# Altium schematic symbol library MY.SchLib: 652 symbols (part 6 of 7)
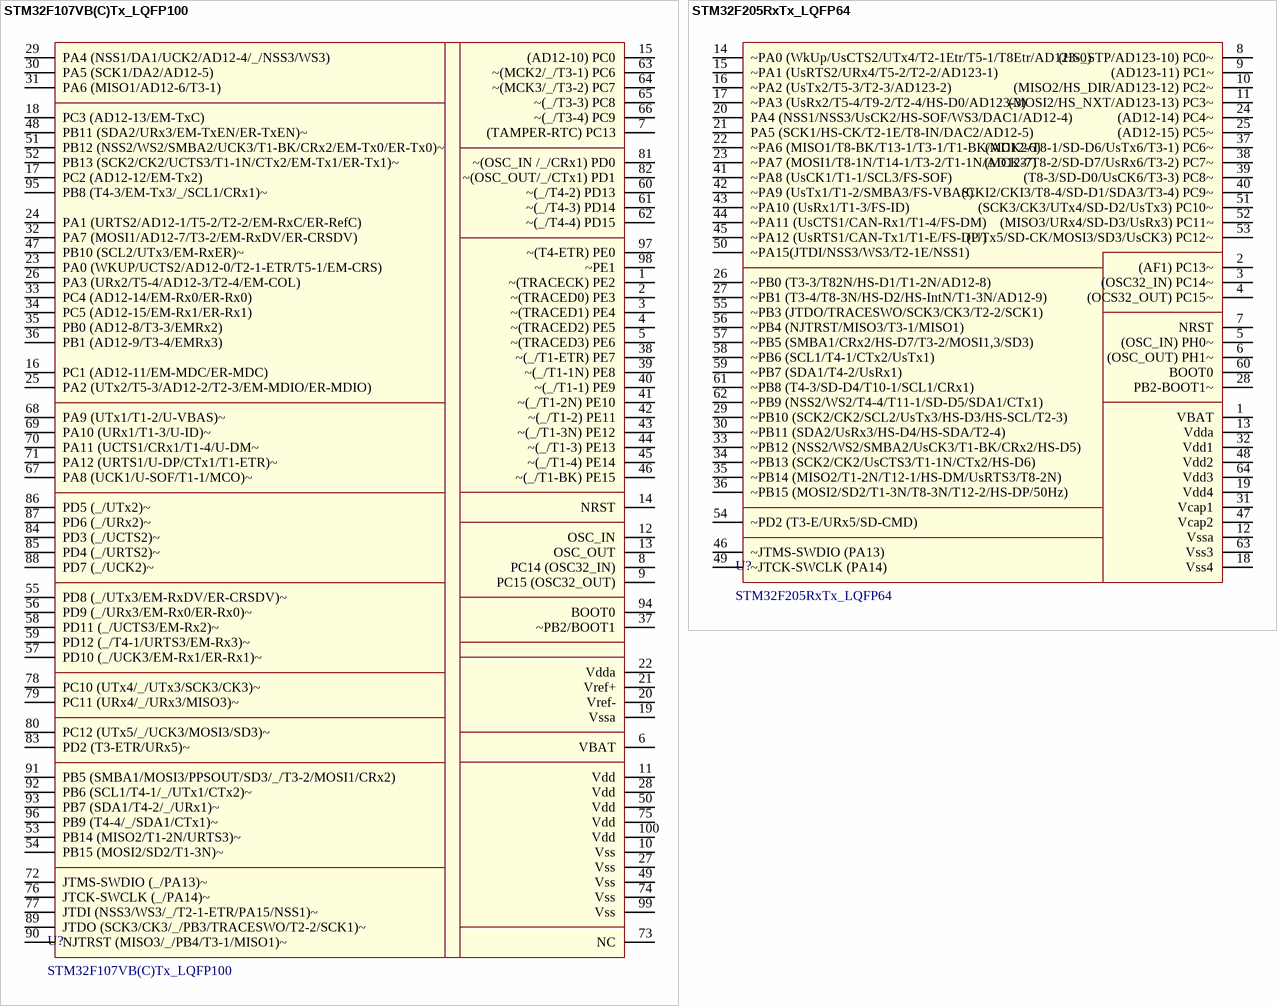
[diagram p46: symbols STM32F107VB(C)Tx_LQFP100 to STM32F205RxTx_LQFP64]

## STM32F107VB(C)Tx_LQFP100
designator U?
footprint LQFP100_UNICONT
pins: 1 ~(TRACECK) PE2, 2 ~(TRACED0) PE3, 3 ~(TRACED1) PE4, 4 ~(TRACED2) PE5, 5 ~(TRACED3) PE6, 6 VBAT, 7 (TAMPER-RTC) PC13, 8 PC14 (OSC32_IN), 9 PC15 (OSC32_OUT), 10 Vss, 11 Vdd, 12 OSC_IN, 13 OSC_OUT, 14 NRST, 15 (AD12-10) PC0, 16 PC1 (AD12-11/EM-MDC/ER-MDC), 17 PC2 (AD12-12/EM-Tx2), 18 PC3 (AD12-13/EM-TxC), 19 Vssa, 20 Vref-, 21 Vref+, 22 Vdda, 23 PA0 (WKUP/UCTS2/AD12-0/T2-1-ETR/T5-1/EM-CRS), 24 PA1 (URTS2/AD12-1/T5-2/T2-2/EM-RxC/ER-RefC), 25 PA2 (UTx2/T5-3/AD12-2/T2-3/EM-MDIO/ER-MDIO), 26 PA3 (URx2/T5-4/AD12-3/T2-4/EM-COL), 27 Vss, 28 Vdd, 29 PA4 (NSS1/DA1/UCK2/AD12-4/_/NSS3/WS3), 30 PA5 (SCK1/DA2/AD12-5), 31 PA6 (MISO1/AD12-6/T3-1), 32 PA7 (MOSI1/AD12-7/T3-2/EM-RxDV/ER-CRSDV), 33 PC4 (AD12-14/EM-Rx0/ER-Rx0), 34 PC5 (AD12-15/EM-Rx1/ER-Rx1), 35 PB0 (AD12-8/T3-3/EMRx2), 36 PB1 (AD12-9/T3-4/EMRx3), 37 ~PB2/BOOT1, 38 ~(_/T1-ETR) PE7, 39 ~(_/T1-1N) PE8, 40 ~(_/T1-1) PE9, 41 ~(_/T1-2N) PE10, 42 ~(_/T1-2) PE11, 43 ~(_/T1-3N) PE12, 44 ~(_/T1-3) PE13, 45 ~(_/T1-4) PE14, 46 ~(_/T1-BK) PE15, 47 PB10 (SCL2/UTx3/EM-RxER)~, 48 PB11 (SDA2/URx3/EM-TxEN/ER-TxEN)~, 49 Vss, 50 Vdd, 51 PB12 (NSS2/WS2/SMBA2/UCK3/T1-BK/CRx2/EM-Tx0/ER-Tx0)~, 52 PB13 (SCK2/CK2/UCTS3/T1-1N/CTx2/EM-Tx1/ER-Tx1)~, 53 PB14 (MISO2/T1-2N/URTS3)~, 54 PB15 (MOSI2/SD2/T1-3N)~, 55 PD8 (_/UTx3/EM-RxDV/ER-CRSDV)~, 56 PD9 (_/URx3/EM-Rx0/ER-Rx0)~, 57 PD10 (_/UCK3/EM-Rx1/ER-Rx1)~, 58 PD11 (_/UCTS3/EM-Rx2)~, 59 PD12 (_/T4-1/URTS3/EM-Rx3)~, 60 ~(_/T4-2) PD13, 61 ~(_/T4-3) PD14, 62 ~(_/T4-4) PD15, 63 ~(MCK2/_/T3-1) PC6, 64 ~(MCK3/_/T3-2) PC7, 65 ~(_/T3-3) PC8, 66 ~(_/T3-4) PC9, 67 PA8 (UCK1/U-SOF/T1-1/MCO)~, 68 PA9 (UTx1/T1-2/U-VBAS)~, 69 PA10 (URx1/T1-3/U-ID)~, 70 PA11 (UCTS1/CRx1/T1-4/U-DM~, 71 PA12 (URTS1/U-DP/CTx1/T1-ETR)~, 72 JTMS-SWDIO (_/PA13)~, 73 NC, 74 Vss, 75 Vdd, 76 JTCK-SWCLK (_/PA14)~, 77 JTDI (NSS3/WS3/_/T2-1-ETR/PA15/NSS1)~, 78 PC10 (UTx4/_/UTx3/SCK3/CK3)~, 79 PC11 (URx4/_/URx3/MISO3)~, 80 PC12 (UTx5/_/UCK3/MOSI3/SD3)~, 81 ~(OSC_IN /_/CRx1) PD0, 82 ~(OSC_OUT/_/CTx1) PD1, 83 PD2 (T3-ETR/URx5)~, 84 PD3 (_/UCTS2)~, 85 PD4 (_/URTS2)~, 86 PD5 (_/UTx2)~, 87 PD6 (_/URx2)~, 88 PD7 (_/UCK2)~, 89 JTDO (SCK3/CK3/_/PB3/TRACESWO/T2-2/SCK1)~, 90 NJTRST (MISO3/_/PB4/T3-1/MISO1)~, 91 PB5 (SMBA1/MOSI3/PPSOUT/SD3/_/T3-2/MOSI1/CRx2), 92 PB6 (SCL1/T4-1/_/UTx1/CTx2)~, 93 PB7 (SDA1/T4-2/_/URx1)~, 94 BOOT0, 95 PB8 (T4-3/EM-Tx3/_/SCL1/CRx1)~, 96 PB9 (T4-4/_/SDA1/CTx1)~, 97 ~(T4-ETR) PE0, 98 ~PE1, 99 Vss, 100 Vdd

## STM32F205RxTx_LQFP64
designator U?
footprint LQFP64_UNICONT
pins: 1 VBAT, 2 (AF1) PC13~, 3 (OSC32_IN) PC14~, 4 (OCS32_OUT) PC15~, 5 (OSC_IN) PH0~, 6 (OSC_OUT) PH1~, 7 NRST, 8 (HS_STP/AD123-10) PC0~, 9 (AD123-11) PC1~, 10 (MISO2/HS_DIR/AD123-12) PC2~, 11 (MOSI2/HS_NXT/AD123-13) PC3~, 12 Vssa, 13 Vdda, 14 ~PA0 (WkUp/UsCTS2/UTx4/T2-1Etr/T5-1/T8Etr/AD123-0), 15 ~PA1 (UsRTS2/URx4/T5-2/T2-2/AD123-1), 16 ~PA2 (UsTx2/T5-3/T2-3/AD123-2), 17 ~PA3 (UsRx2/T5-4/T9-2/T2-4/HS-D0/AD123-3), 18 Vss4, 19 Vdd4, 20 PA4 (NSS1/NSS3/UsCK2/HS-SOF/WS3/DAC1/AD12-4), 21 PA5 (SCK1/HS-CK/T2-1E/T8-IN/DAC2/AD12-5), 22 ~PA6 (MISO1/T8-BK/T13-1/T3-1/T1-BK/AD12-6), 23 ~PA7 (MOSI1/T8-1N/T14-1/T3-2/T1-1N/AD12-7), 24 (AD12-14) PC4~, 25 (AD12-15) PC5~, 26 ~PB0 (T3-3/T82N/HS-D1/T1-2N/AD12-8), 27 ~PB1 (T3-4/T8-3N/HS-D2/HS-IntN/T1-3N/AD12-9), 28 PB2-BOOT1~, 29 ~PB10 (SCK2/CK2/SCL2/UsTx3/HS-D3/HS-SCL/T2-3), 30 ~PB11 (SDA2/UsRx3/HS-D4/HS-SDA/T2-4), 31 Vcap1, 32 Vdd1, 33 ~PB12 (NSS2/WS2/SMBA2/UsCK3/T1-BK/CRx2/HS-D5), 34 ~PB13 (SCK2/CK2/UsCTS3/T1-1N/CTx2/HS-D6), 35 ~PB14 (MISO2/T1-2N/T12-1/HS-DM/UsRTS3/T8-2N), 36 ~PB15 (MOSI2/SD2/T1-3N/T8-3N/T12-2/HS-DP/50Hz), 37 (MCK2/T8-1/SD-D6/UsTx6/T3-1) PC6~, 38 (MCK3/T8-2/SD-D7/UsRx6/T3-2) PC7~, 39 (T8-3/SD-D0/UsCK6/T3-3) PC8~, 40 (CKI2/CKI3/T8-4/SD-D1/SDA3/T3-4) PC9~, 41 ~PA8 (UsCK1/T1-1/SCL3/FS-SOF), 42 ~PA9 (UsTx1/T1-2/SMBA3/FS-VBAS), 43 ~PA10 (UsRx1/T1-3/FS-ID), 44 ~PA11 (UsCTS1/CAN-Rx1/T1-4/FS-DM), 45 ~PA12 (UsRTS1/CAN-Tx1/T1-E/FS-DP/), 46 ~JTMS-SWDIO (PA13), 47 Vcap2, 48 Vdd2, 49 ~JTCK-SWCLK (PA14), 50 ~PA15(JTDI/NSS3/WS3/T2-1E/NSS1), 51 (SCK3/CK3/UTx4/SD-D2/UsTx3) PC10~, 52 (MISO3/URx4/SD-D3/UsRx3) PC11~, 53 (UTx5/SD-CK/MOSI3/SD3/UsCK3) PC12~, 54 ~PD2 (T3-E/URx5/SD-CMD), 55 ~PB3 (JTDO/TRACESWO/SCK3/CK3/T2-2/SCK1), 56 ~PB4 (NJTRST/MISO3/T3-1/MISO1), 57 ~PB5 (SMBA1/CRx2/HS-D7/T3-2/MOSI1,3/SD3), 58 ~PB6 (SCL1/T4-1/CTx2/UsTx1), 59 ~PB7 (SDA1/T4-2/UsRx1), 60 BOOT0, 61 ~PB8 (T4-3/SD-D4/T10-1/SCL1/CRx1), 62 ~PB9 (NSS2/WS2/T4-4/T11-1/SD-D5/SDA1/CTx1), 63 Vss3, 64 Vdd3

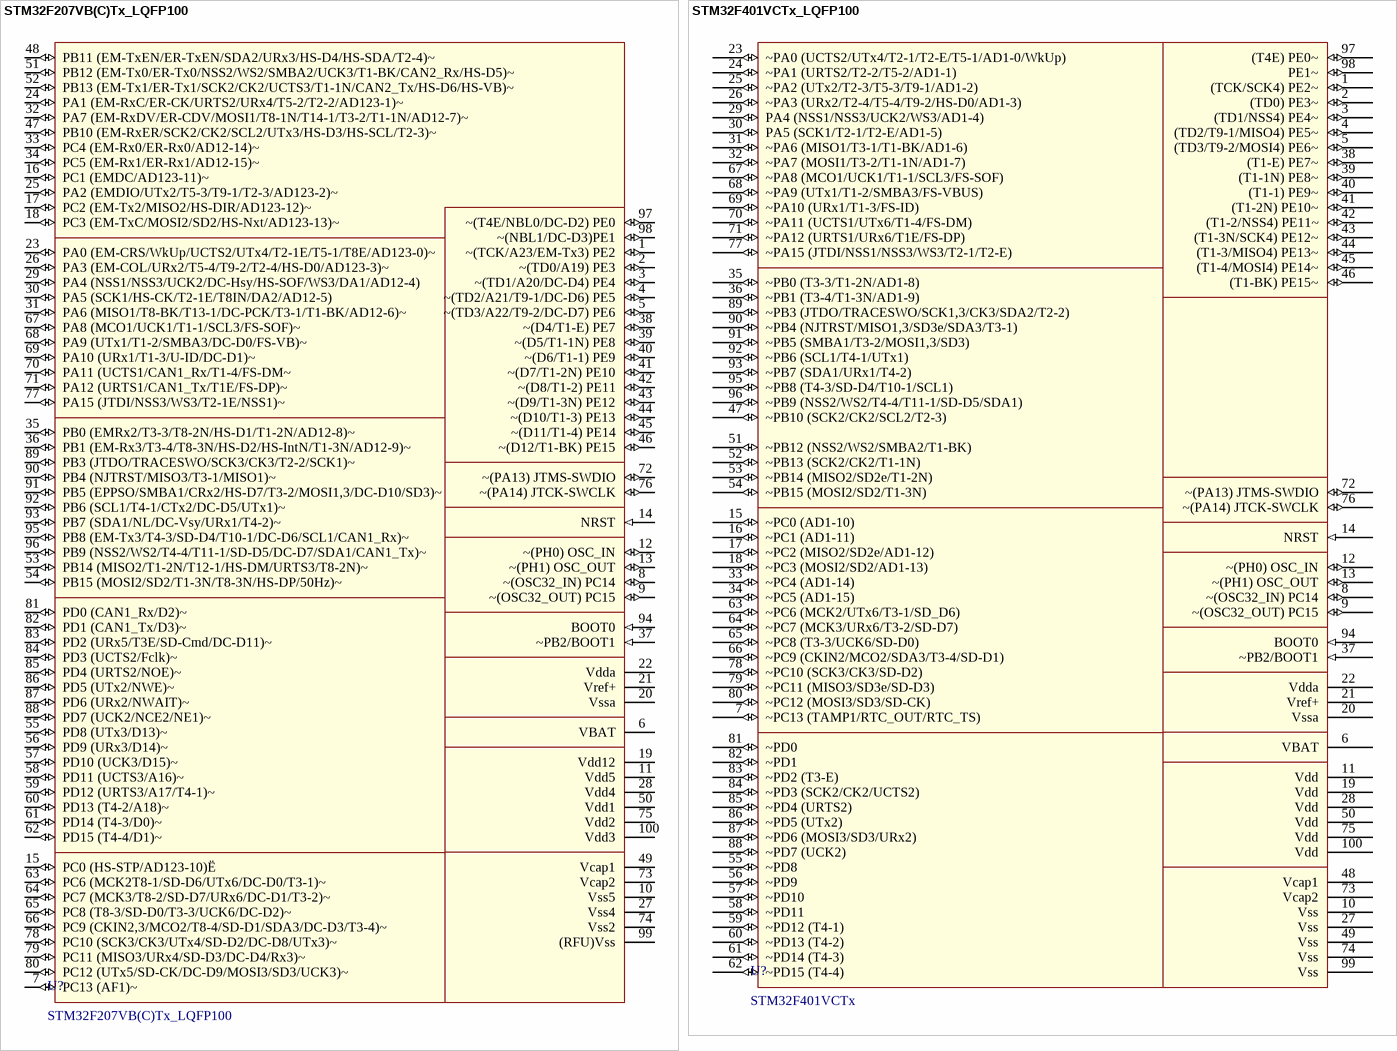
[diagram p31: symbols STM32F207VB(C)Tx_LQFP100 to STM32F401VCTx_LQFP100]

## STM32F207VB(C)Tx_LQFP100
designator U?
footprint LQFP100_UNICONT
pins: 1 ~(TCK/A23/EM-Tx3) PE2 (io), 2 ~(TD0/A19) PE3 (io), 3 ~(TD1/A20/DC-D4) PE4 (io), 4 ~(TD2/A21/T9-1/DC-D6) PE5 (io), 5 ~(TD3/A22/T9-2/DC-D7) PE6 (io), 6 VBAT (power), 7 PC13 (AF1)~ (io), 8 ~(OSC32_IN) PC14 (io), 9 ~(OSC32_OUT) PC15 (io), 10 Vss5 (power), 11 Vdd5 (power), 12 ~(PH0) OSC_IN (io), 13 ~(PH1) OSC_OUT (io), 14 NRST (in), 15 PC0 (HS-STP/AD123-10)Ё (io), 16 PC1 (EMDC/AD123-11)~ (io), 17 PC2 (EM-Tx2/MISO2/HS-DIR/AD123-12)~ (io), 18 PC3 (EM-TxC/MOSI2/SD2/HS-Nxt/AD123-13)~ (io), 19 Vdd12 (power), 20 Vssa (power), 21 Vref+ (power), 22 Vdda (power), 23 PA0 (EM-CRS/WkUp/UCTS2/UTx4/T2-1E/T5-1/T8E/AD123-0)~ (io), 24 PA1 (EM-RxC/ER-CK/URTS2/URx4/T5-2/T2-2/AD123-1)~ (io), 25 PA2 (EMDIO/UTx2/T5-3/T9-1/T2-3/AD123-2)~ (io), 26 PA3 (EM-COL/URx2/T5-4/T9-2/T2-4/HS-D0/AD123-3)~ (io), 27 Vss4 (power), 28 Vdd4 (power), 29 PA4 (NSS1/NSS3/UCK2/DC-Hsy/HS-SOF/WS3/DA1/AD12-4) (io), 30 PA5 (SCK1/HS-CK/T2-1E/T8IN/DA2/AD12-5) (io), 31 PA6 (MISO1/T8-BK/T13-1/DC-PCK/T3-1/T1-BK/AD12-6)~ (io), 32 PA7 (EM-RxDV/ER-CDV/MOSI1/T8-1N/T14-1/T3-2/T1-1N/AD12-7)~ (io), 33 PC4 (EM-Rx0/ER-Rx0/AD12-14)~ (io), 34 PC5 (EM-Rx1/ER-Rx1/AD12-15)~ (io), 35 PB0 (EMRx2/T3-3/T8-2N/HS-D1/T1-2N/AD12-8)~ (io), 36 PB1 (EM-Rx3/T3-4/T8-3N/HS-D2/HS-IntN/T1-3N/AD12-9)~ (io), 37 ~PB2/BOOT1 (in), 38 ~(D4/T1-E) PE7 (io), 39 ~(D5/T1-1N) PE8 (io), 40 ~(D6/T1-1) PE9 (io), 41 ~(D7/T1-2N) PE10 (io), 42 ~(D8/T1-2) PE11 (io), 43 ~(D9/T1-3N) PE12 (io), 44 ~(D10/T1-3) PE13 (io), 45 ~(D11/T1-4) PE14 (io), 46 ~(D12/T1-BK) PE15 (io), 47 PB10 (EM-RxER/SCK2/CK2/SCL2/UTx3/HS-D3/HS-SCL/T2-3)~ (io), 48 PB11 (EM-TxEN/ER-TxEN/SDA2/URx3/HS-D4/HS-SDA/T2-4)~ (io), 49 Vcap1 (power), 50 Vdd1 (power), 51 PB12 (EM-Tx0/ER-Tx0/NSS2/WS2/SMBA2/UCK3/T1-BK/CAN2_Rx/HS-D5)~ (io) "ffgfgg", 52 PB13 (EM-Tx1/ER-Tx1/SCK2/CK2/UCTS3/T1-1N/CAN2_Tx/HS-D6/HS-VB)~ (io), 53 PB14 (MISO2/T1-2N/T12-1/HS-DM/URTS3/T8-2N)~ (io), 54 PB15 (MOSI2/SD2/T1-3N/T8-3N/HS-DP/50Hz)~ (io), 55 PD8 (UTx3/D13)~ (io), 56 PD9 (URx3/D14)~ (io), 57 PD10 (UCK3/D15)~ (io), 58 PD11 (UCTS3/A16)~ (io), 59 PD12 (URTS3/A17/T4-1)~ (io), 60 PD13 (T4-2/A18)~ (io), 61 PD14 (T4-3/D0)~ (io), 62 PD15 (T4-4/D1)~ (io), 63 PC6 (MCK2T8-1/SD-D6/UTx6/DC-D0/T3-1)~ (io), 64 PC7 (MCK3/T8-2/SD-D7/URx6/DC-D1/T3-2)~ (io), 65 PC8 (T8-3/SD-D0/T3-3/UCK6/DC-D2)~ (io), 66 PC9 (CKIN2,3/MCO2/T8-4/SD-D1/SDA3/DC-D3/T3-4)~ (io), 67 PA8 (MCO1/UCK1/T1-1/SCL3/FS-SOF)~ (io), 68 PA9 (UTx1/T1-2/SMBA3/DC-D0/FS-VB)~ (io), 69 PA10 (URx1/T1-3/U-ID/DC-D1)~ (io), 70 PA11 (UCTS1/CAN1_Rx/T1-4/FS-DM~ (io), 71 PA12 (URTS1/CAN1_Tx/T1E/FS-DP)~ (io), 72 ~(PA13) JTMS-SWDIO (io), 73 Vcap2 (power), 74 Vss2 (power), 75 Vdd2 (power), 76 ~(PA14) JTCK-SWCLK (io), 77 PA15 (JTDI/NSS3/WS3/T2-1E/NSS1)~ (io), 78 PC10 (SCK3/CK3/UTx4/SD-D2/DC-D8/UTx3)~ (io), 79 PC11 (MISO3/URx4/SD-D3/DC-D4/Rx3)~ (io), 80 PC12 (UTx5/SD-CK/DC-D9/MOSI3/SD3/UCK3)~ (io), 81 PD0 (CAN1_Rx/D2)~ (io), 82 PD1 (CAN1_Tx/D3)~ (io), 83 PD2 (URx5/T3E/SD-Cmd/DC-D11)~ (io), 84 PD3 (UCTS2/Fclk)~ (io), 85 PD4 (URTS2/NOE)~ (io), 86 PD5 (UTx2/NWE)~ (io), 87 PD6 (URx2/NWAIT)~ (io), 88 PD7 (UCK2/NCE2/NE1)~ (io), 89 PB3 (JTDO/TRACESWO/SCK3/CK3/T2-2/SCK1)~ (io), 90 PB4 (NJTRST/MISO3/T3-1/MISO1)~ (io), 91 PB5 (EPPSO/SMBA1/CRx2/HS-D7/T3-2/MOSI1,3/DC-D10/SD3)~ (io), 92 PB6 (SCL1/T4-1/CTx2/DC-D5/UTx1)~ (io), 93 PB7 (SDA1/NL/DC-Vsy/URx1/T4-2)~ (io), 94 BOOT0 (in), 95 PB8 (EM-Tx3/T4-3/SD-D4/T10-1/DC-D6/SCL1/CAN1_Rx)~ (io), 96 PB9 (NSS2/WS2/T4-4/T11-1/SD-D5/DC-D7/SDA1/CAN1_Tx)~ (io), 97 ~(T4E/NBL0/DC-D2) PE0 (io), 98 ~(NBL1/DC-D3)PE1 (io), 99 (RFU)Vss (power), 100 Vdd3 (power)

## STM32F401VCTx_LQFP100
designator U?, comment STM32F401VCTx
footprint LQFP100_UNICONT
pins: 1 (TCK/SCK4) PE2~ (io), 2 (TD0) PE3~ (io), 3 (TD1/NSS4) PE4~ (io), 4 (TD2/T9-1/MISO4) PE5~ (io), 5 (TD3/T9-2/MOSI4) PE6~ (io), 6 VBAT (power), 7 ~PC13 (TAMP1/RTC_OUT/RTC_TS) (io), 8 ~(OSC32_IN) PC14 (io), 9 ~(OSC32_OUT) PC15 (io), 10 Vss (power), 11 Vdd (power), 12 ~(PH0) OSC_IN (io), 13 ~(PH1) OSC_OUT (io), 14 NRST (in), 15 ~PC0 (AD1-10) (io), 16 ~PC1 (AD1-11) (io), 17 ~PC2 (MISO2/SD2e/AD1-12) (io), 18 ~PC3 (MOSI2/SD2/AD1-13) (io), 19 Vdd (power), 20 Vssa (power), 21 Vref+ (power), 22 Vdda (power), 23 ~PA0 (UCTS2/UTx4/T2-1/T2-E/T5-1/AD1-0/WkUp) (io), 24 ~PA1 (URTS2/T2-2/T5-2/AD1-1) (io), 25 ~PA2 (UTx2/T2-3/T5-3/T9-1/AD1-2) (io), 26 ~PA3 (URx2/T2-4/T5-4/T9-2/HS-D0/AD1-3) (io), 27 Vss (power), 28 Vdd (power), 29 PA4 (NSS1/NSS3/UCK2/WS3/AD1-4) (io), 30 PA5 (SCK1/T2-1/T2-E/AD1-5) (io), 31 ~PA6 (MISO1/T3-1/T1-BK/AD1-6) (io), 32 ~PA7 (MOSI1/T3-2/T1-1N/AD1-7) (io), 33 ~PC4 (AD1-14) (io), 34 ~PC5 (AD1-15) (io), 35 ~PB0 (T3-3/T1-2N/AD1-8) (io), 36 ~PB1 (T3-4/T1-3N/AD1-9) (io), 37 ~PB2/BOOT1 (in), 38 (T1-E) PE7~ (io), 39 (T1-1N) PE8~ (io), 40 (T1-1) PE9~ (io), 41 (T1-2N) PE10~ (io), 42 (T1-2/NSS4) PE11~ (io), 43 (T1-3N/SCK4) PE12~ (io), 44 (T1-3/MISO4) PE13~ (io), 45 (T1-4/MOSI4) PE14~ (io), 46 (T1-BK) PE15~ (io), 47 ~PB10 (SCK2/CK2/SCL2/T2-3) (io), 48 Vcap1 (power), 49 Vss (power), 50 Vdd (power), 51 ~PB12 (NSS2/WS2/SMBA2/T1-BK) (io) "ffgfgg", 52 ~PB13 (SCK2/CK2/T1-1N) (io), 53 ~PB14 (MISO2/SD2e/T1-2N) (io), 54 ~PB15 (MOSI2/SD2/T1-3N) (io), 55 ~PD8 (io), 56 ~PD9 (io), 57 ~PD10 (io), 58 ~PD11 (io), 59 ~PD12 (T4-1) (io), 60 ~PD13 (T4-2) (io), 61 ~PD14 (T4-3) (io), 62 ~PD15 (T4-4) (io), 63 ~PC6 (MCK2/UTx6/T3-1/SD_D6) (io), 64 ~PC7 (MCK3/URx6/T3-2/SD-D7) (io), 65 ~PC8 (T3-3/UCK6/SD-D0) (io), 66 ~PC9 (CKIN2/MCO2/SDA3/T3-4/SD-D1) (io), 67 ~PA8 (MCO1/UCK1/T1-1/SCL3/FS-SOF) (io), 68 ~PA9 (UTx1/T1-2/SMBA3/FS-VBUS) (io), 69 ~PA10 (URx1/T1-3/FS-ID) (io), 70 ~PA11 (UCTS1/UTx6/T1-4/FS-DM) (io), 71 ~PA12 (URTS1/URx6/T1E/FS-DP) (io), 72 ~(PA13) JTMS-SWDIO (io), 73 Vcap2 (power), 74 Vss (power), 75 Vdd (power), 76 ~(PA14) JTCK-SWCLK (io), 77 ~PA15 (JTDI/NSS1/NSS3/WS3/T2-1/T2-E) (io), 78 ~PC10 (SCK3/CK3/SD-D2) (io), 79 ~PC11 (MISO3/SD3e/SD-D3) (io), 80 ~PC12 (MOSI3/SD3/SD-CK) (io), 81 ~PD0 (io), 82 ~PD1 (io), 83 ~PD2 (T3-E) (io), 84 ~PD3 (SCK2/CK2/UCTS2) (io), 85 ~PD4 (URTS2) (io), 86 ~PD5 (UTx2) (io), 87 ~PD6 (MOSI3/SD3/URx2) (io), 88 ~PD7 (UCK2) (io), 89 ~PB3 (JTDO/TRACESWO/SCK1,3/CK3/SDA2/T2-2) (io), 90 ~PB4 (NJTRST/MISO1,3/SD3e/SDA3/T3-1) (io), 91 ~PB5 (SMBA1/T3-2/MOSI1,3/SD3) (io), 92 ~PB6 (SCL1/T4-1/UTx1) (io), 93 ~PB7 (SDA1/URx1/T4-2) (io), 94 BOOT0 (in), 95 ~PB8 (T4-3/SD-D4/T10-1/SCL1) (io), 96 ~PB9 (NSS2/WS2/T4-4/T11-1/SD-D5/SDA1) (io), 97 (T4E) PE0~ (io), 98 PE1~ (io), 99 Vss (power), 100 Vdd (power)

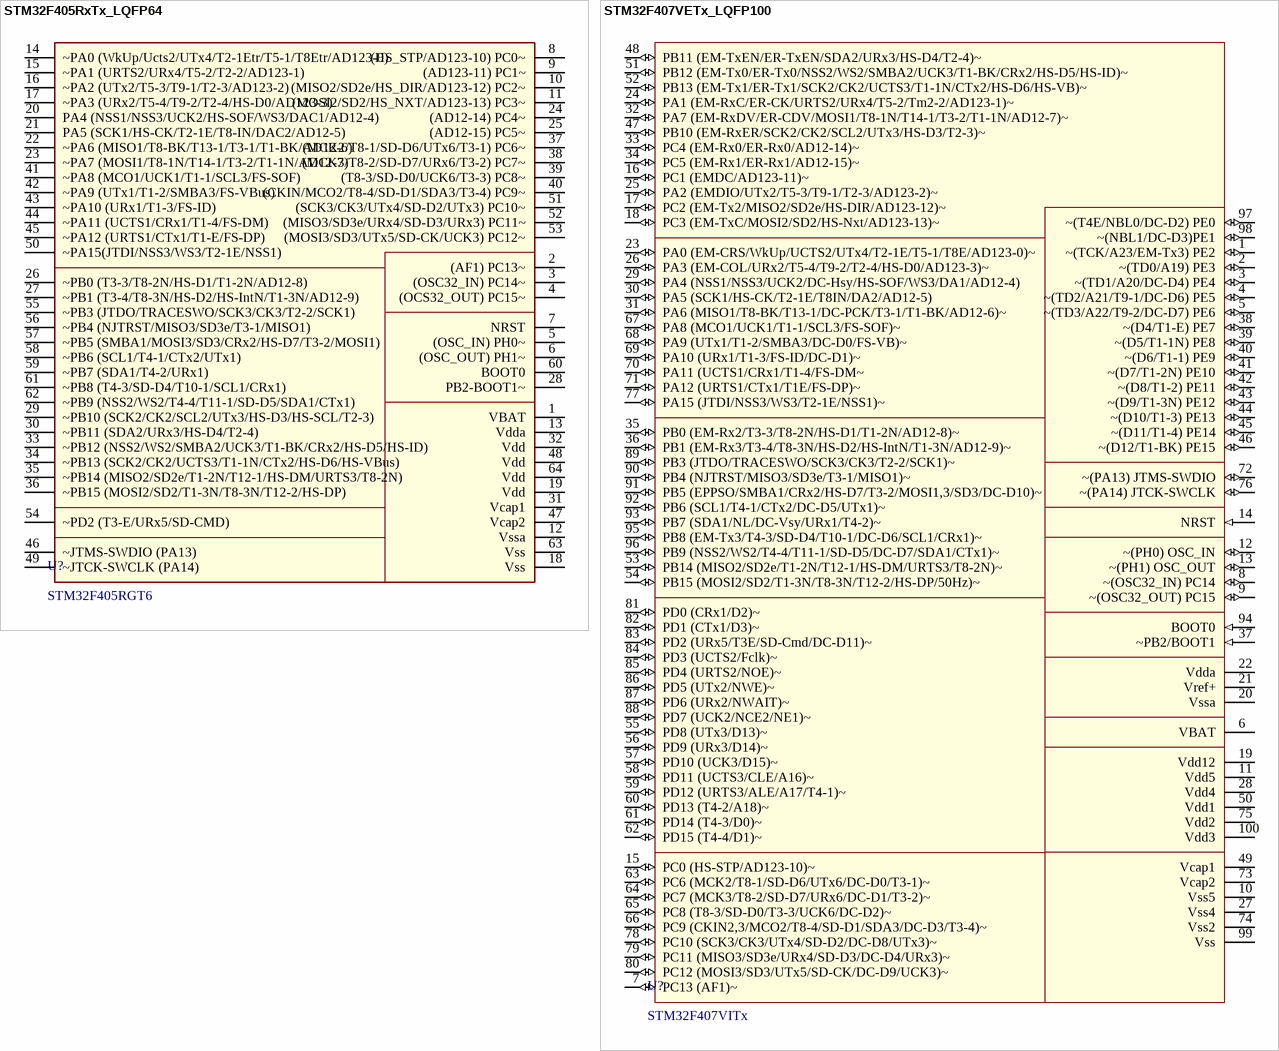
[diagram p32: symbols STM32F405RxTx_LQFP64 to STM32F407VETx_LQFP100]

## STM32F405RxTx_LQFP64
designator U?, comment STM32F405RGT6
HelpURL: L:\Dev\Техническая документация\Микроконтроллеры\ST\4xx\40x\STM32F405(7)xx_datasheet.pdf; ComponentLink1Description: Datasheet; ComponentLink1URL: L:\Dev\Техническая документация\Микроконтроллеры\ST\4xx\40x\STM32F405(7)xx_datasheet.pdf; ComponentLink2Description: Reference Manual; ComponentLink2URL: L:\Dev\Техническая документация\Микроконтроллеры\ST\4xx\F4(05,07,15,17,27,37,29,39) Reference manual rev.12 DM00031020 RM0090.pdf
footprint LQFP64_UNICONT
pins: 1 VBAT, 2 (AF1) PC13~, 3 (OSC32_IN) PC14~, 4 (OCS32_OUT) PC15~, 5 (OSC_IN) PH0~, 6 (OSC_OUT) PH1~, 7 NRST, 8 (HS_STP/AD123-10) PC0~, 9 (AD123-11) PC1~, 10 (MISO2/SD2e/HS_DIR/AD123-12) PC2~, 11 (MOSI2/SD2/HS_NXT/AD123-13) PC3~, 12 Vssa, 13 Vdda, 14 ~PA0 (WkUp/Ucts2/UTx4/T2-1Etr/T5-1/T8Etr/AD123-0), 15 ~PA1 (URTS2/URx4/T5-2/T2-2/AD123-1), 16 ~PA2 (UTx2/T5-3/T9-1/T2-3/AD123-2), 17 ~PA3 (URx2/T5-4/T9-2/T2-4/HS-D0/AD123-3), 18 Vss, 19 Vdd, 20 PA4 (NSS1/NSS3/UCK2/HS-SOF/WS3/DAC1/AD12-4), 21 PA5 (SCK1/HS-CK/T2-1E/T8-IN/DAC2/AD12-5), 22 ~PA6 (MISO1/T8-BK/T13-1/T3-1/T1-BK/AD12-6), 23 ~PA7 (MOSI1/T8-1N/T14-1/T3-2/T1-1N/AD12-7), 24 (AD12-14) PC4~, 25 (AD12-15) PC5~, 26 ~PB0 (T3-3/T8-2N/HS-D1/T1-2N/AD12-8), 27 ~PB1 (T3-4/T8-3N/HS-D2/HS-IntN/T1-3N/AD12-9), 28 PB2-BOOT1~, 29 ~PB10 (SCK2/CK2/SCL2/UTx3/HS-D3/HS-SCL/T2-3), 30 ~PB11 (SDA2/URx3/HS-D4/T2-4), 31 Vcap1, 32 Vdd, 33 ~PB12 (NSS2/WS2/SMBA2/UCK3/T1-BK/CRx2/HS-D5/HS-ID), 34 ~PB13 (SCK2/CK2/UCTS3/T1-1N/CTx2/HS-D6/HS-VBus), 35 ~PB14 (MISO2/SD2e/T1-2N/T12-1/HS-DM/URTS3/T8-2N), 36 ~PB15 (MOSI2/SD2/T1-3N/T8-3N/T12-2/HS-DP), 37 (MCK2/T8-1/SD-D6/UTx6/T3-1) PC6~, 38 (MCK3/T8-2/SD-D7/URx6/T3-2) PC7~, 39 (T8-3/SD-D0/UCK6/T3-3) PC8~, 40 (CKIN/MCO2/T8-4/SD-D1/SDA3/T3-4) PC9~, 41 ~PA8 (MCO1/UCK1/T1-1/SCL3/FS-SOF), 42 ~PA9 (UTx1/T1-2/SMBA3/FS-VBus), 43 ~PA10 (URx1/T1-3/FS-ID), 44 ~PA11 (UCTS1/CRx1/T1-4/FS-DM), 45 ~PA12 (URTS1/CTx1/T1-E/FS-DP), 46 ~JTMS-SWDIO (PA13), 47 Vcap2, 48 Vdd, 49 ~JTCK-SWCLK (PA14), 50 ~PA15(JTDI/NSS3/WS3/T2-1E/NSS1), 51 (SCK3/CK3/UTx4/SD-D2/UTx3) PC10~, 52 (MISO3/SD3e/URx4/SD-D3/URx3) PC11~, 53 (MOSI3/SD3/UTx5/SD-CK/UCK3) PC12~, 54 ~PD2 (T3-E/URx5/SD-CMD), 55 ~PB3 (JTDO/TRACESWO/SCK3/CK3/T2-2/SCK1), 56 ~PB4 (NJTRST/MISO3/SD3e/T3-1/MISO1), 57 ~PB5 (SMBA1/MOSI3/SD3/CRx2/HS-D7/T3-2/MOSI1), 58 ~PB6 (SCL1/T4-1/CTx2/UTx1), 59 ~PB7 (SDA1/T4-2/URx1), 60 BOOT0, 61 ~PB8 (T4-3/SD-D4/T10-1/SCL1/CRx1), 62 ~PB9 (NSS2/WS2/T4-4/T11-1/SD-D5/SDA1/CTx1), 63 Vss, 64 Vdd

## STM32F407VETx_LQFP100
designator U?, comment STM32F407VITx
footprint LQFP100_UNICONT
pins: 1 ~(TCK/A23/EM-Tx3) PE2 (io), 2 ~(TD0/A19) PE3 (io), 3 ~(TD1/A20/DC-D4) PE4 (io), 4 ~(TD2/A21/T9-1/DC-D6) PE5 (io), 5 ~(TD3/A22/T9-2/DC-D7) PE6 (io), 6 VBAT (power), 7 PC13 (AF1)~ (io), 8 ~(OSC32_IN) PC14 (io), 9 ~(OSC32_OUT) PC15 (io), 10 Vss5 (power), 11 Vdd5 (power), 12 ~(PH0) OSC_IN (io), 13 ~(PH1) OSC_OUT (io), 14 NRST (in), 15 PC0 (HS-STP/AD123-10)~ (io), 16 PC1 (EMDC/AD123-11)~ (io), 17 PC2 (EM-Tx2/MISO2/SD2e/HS-DIR/AD123-12)~ (io), 18 PC3 (EM-TxC/MOSI2/SD2/HS-Nxt/AD123-13)~ (io), 19 Vdd12 (power), 20 Vssa (power), 21 Vref+ (power), 22 Vdda (power), 23 PA0 (EM-CRS/WkUp/UCTS2/UTx4/T2-1E/T5-1/T8E/AD123-0)~ (io), 24 PA1 (EM-RxC/ER-CK/URTS2/URx4/T5-2/Tm2-2/AD123-1)~ (io), 25 PA2 (EMDIO/UTx2/T5-3/T9-1/T2-3/AD123-2)~ (io), 26 PA3 (EM-COL/URx2/T5-4/T9-2/T2-4/HS-D0/AD123-3)~ (io), 27 Vss4 (power), 28 Vdd4 (power), 29 PA4 (NSS1/NSS3/UCK2/DC-Hsy/HS-SOF/WS3/DA1/AD12-4) (io), 30 PA5 (SCK1/HS-CK/T2-1E/T8IN/DA2/AD12-5) (io), 31 PA6 (MISO1/T8-BK/T13-1/DC-PCK/T3-1/T1-BK/AD12-6)~ (io), 32 PA7 (EM-RxDV/ER-CDV/MOSI1/T8-1N/T14-1/T3-2/T1-1N/AD12-7)~ (io), 33 PC4 (EM-Rx0/ER-Rx0/AD12-14)~ (io), 34 PC5 (EM-Rx1/ER-Rx1/AD12-15)~ (io), 35 PB0 (EM-Rx2/T3-3/T8-2N/HS-D1/T1-2N/AD12-8)~ (io), 36 PB1 (EM-Rx3/T3-4/T8-3N/HS-D2/HS-IntN/T1-3N/AD12-9)~ (io), 37 ~PB2/BOOT1 (in), 38 ~(D4/T1-E) PE7 (io), 39 ~(D5/T1-1N) PE8 (io), 40 ~(D6/T1-1) PE9 (io), 41 ~(D7/T1-2N) PE10 (io), 42 ~(D8/T1-2) PE11 (io), 43 ~(D9/T1-3N) PE12 (io), 44 ~(D10/T1-3) PE13 (io), 45 ~(D11/T1-4) PE14 (io), 46 ~(D12/T1-BK) PE15 (io), 47 PB10 (EM-RxER/SCK2/CK2/SCL2/UTx3/HS-D3/T2-3)~ (io), 48 PB11 (EM-TxEN/ER-TxEN/SDA2/URx3/HS-D4/T2-4)~ (io), 49 Vcap1 (power), 50 Vdd1 (power), 51 PB12 (EM-Tx0/ER-Tx0/NSS2/WS2/SMBA2/UCK3/T1-BK/CRx2/HS-D5/HS-ID)~ (io) "ffgfgg", 52 PB13 (EM-Tx1/ER-Tx1/SCK2/CK2/UCTS3/T1-1N/CTx2/HS-D6/HS-VB)~ (io), 53 PB14 (MISO2/SD2e/T1-2N/T12-1/HS-DM/URTS3/T8-2N)~ (io), 54 PB15 (MOSI2/SD2/T1-3N/T8-3N/T12-2/HS-DP/50Hz)~ (io), 55 PD8 (UTx3/D13)~ (io), 56 PD9 (URx3/D14)~ (io), 57 PD10 (UCK3/D15)~ (io), 58 PD11 (UCTS3/CLE/A16)~ (io), 59 PD12 (URTS3/ALE/A17/T4-1)~ (io), 60 PD13 (T4-2/A18)~ (io), 61 PD14 (T4-3/D0)~ (io), 62 PD15 (T4-4/D1)~ (io), 63 PC6 (MCK2/T8-1/SD-D6/UTx6/DC-D0/T3-1)~ (io), 64 PC7 (MCK3/T8-2/SD-D7/URx6/DC-D1/T3-2)~ (io), 65 PC8 (T8-3/SD-D0/T3-3/UCK6/DC-D2)~ (io), 66 PC9 (CKIN2,3/MCO2/T8-4/SD-D1/SDA3/DC-D3/T3-4)~ (io), 67 PA8 (MCO1/UCK1/T1-1/SCL3/FS-SOF)~ (io), 68 PA9 (UTx1/T1-2/SMBA3/DC-D0/FS-VB)~ (io), 69 PA10 (URx1/T1-3/FS-ID/DC-D1)~ (io), 70 PA11 (UCTS1/CRx1/T1-4/FS-DM~ (io), 71 PA12 (URTS1/CTx1/T1E/FS-DP)~ (io), 72 ~(PA13) JTMS-SWDIO (io), 73 Vcap2 (power), 74 Vss2 (power), 75 Vdd2 (power), 76 ~(PA14) JTCK-SWCLK (io), 77 PA15 (JTDI/NSS3/WS3/T2-1E/NSS1)~ (io), 78 PC10 (SCK3/CK3/UTx4/SD-D2/DC-D8/UTx3)~ (io), 79 PC11 (MISO3/SD3e/URx4/SD-D3/DC-D4/URx3)~ (io), 80 PC12 (MOSI3/SD3/UTx5/SD-CK/DC-D9/UCK3)~ (io), 81 PD0 (CRx1/D2)~ (io), 82 PD1 (CTx1/D3)~ (io), 83 PD2 (URx5/T3E/SD-Cmd/DC-D11)~ (io), 84 PD3 (UCTS2/Fclk)~ (io), 85 PD4 (URTS2/NOE)~ (io), 86 PD5 (UTx2/NWE)~ (io), 87 PD6 (URx2/NWAIT)~ (io), 88 PD7 (UCK2/NCE2/NE1)~ (io), 89 PB3 (JTDO/TRACESWO/SCK3/CK3/T2-2/SCK1)~ (io), 90 PB4 (NJTRST/MISO3/SD3e/T3-1/MISO1)~ (io), 91 PB5 (EPPSO/SMBA1/CRx2/HS-D7/T3-2/MOSI1,3/SD3/DC-D10)~ (io), 92 PB6 (SCL1/T4-1/CTx2/DC-D5/UTx1)~ (io), 93 PB7 (SDA1/NL/DC-Vsy/URx1/T4-2)~ (io), 94 BOOT0 (in), 95 PB8 (EM-Tx3/T4-3/SD-D4/T10-1/DC-D6/SCL1/CRx1)~ (io), 96 PB9 (NSS2/WS2/T4-4/T11-1/SD-D5/DC-D7/SDA1/CTx1)~ (io), 97 ~(T4E/NBL0/DC-D2) PE0 (io), 98 ~(NBL1/DC-D3)PE1 (io), 99 Vss (power), 100 Vdd3 (power)

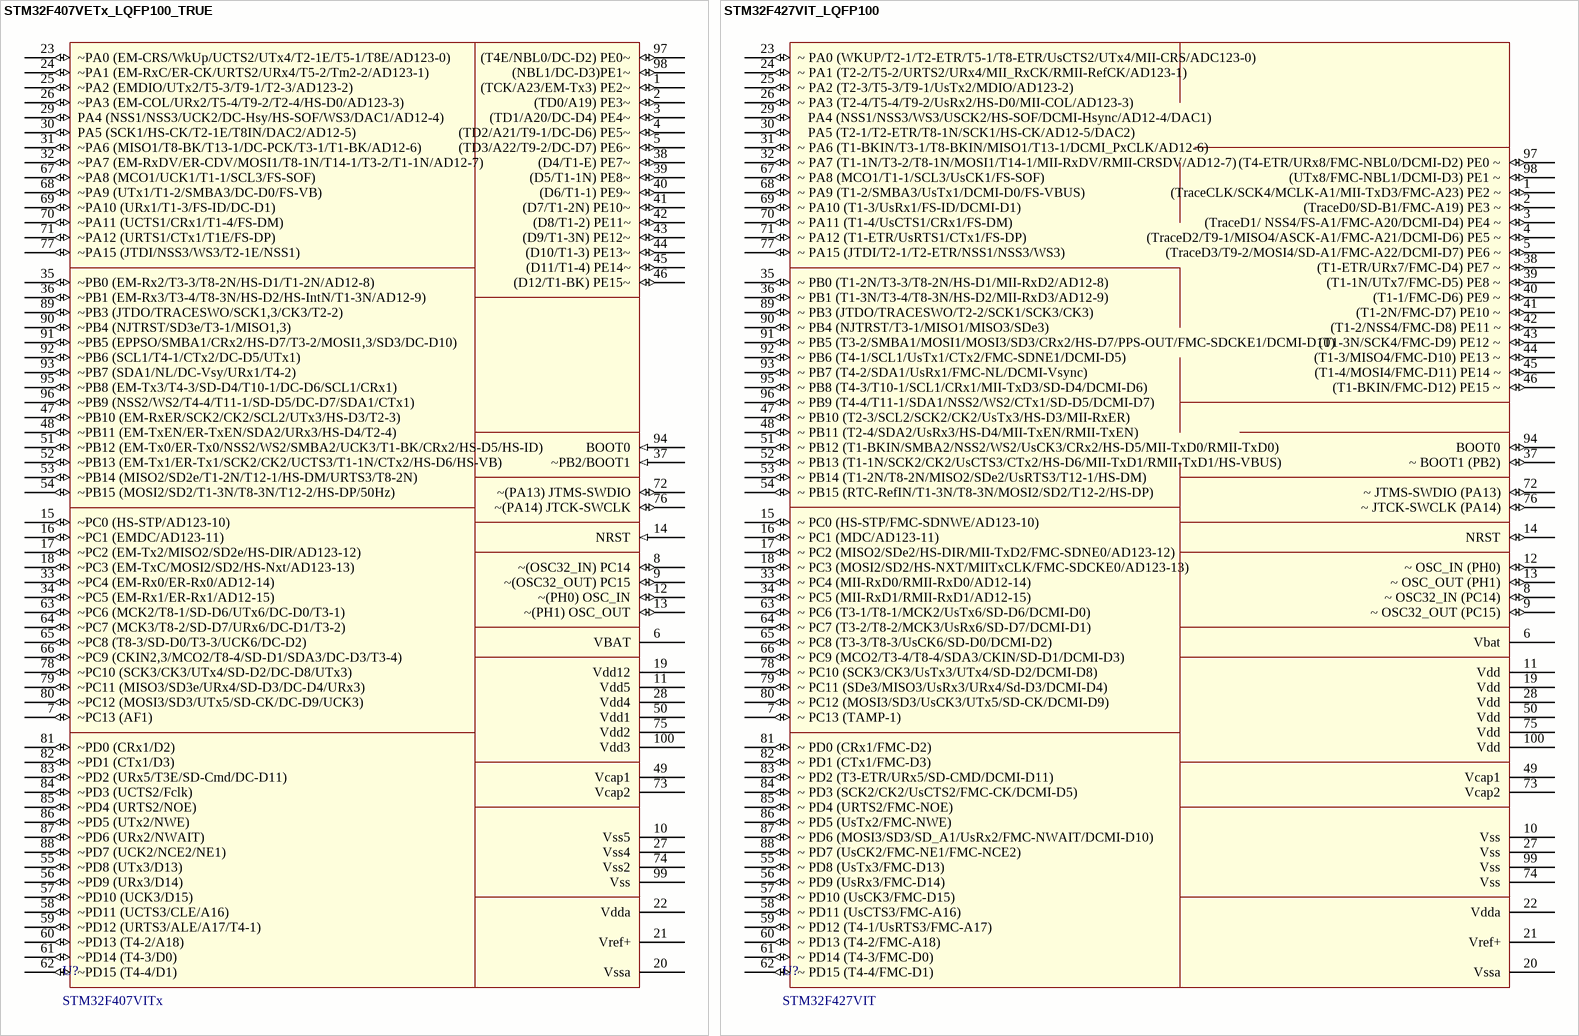
[diagram p33: symbols STM32F407VETx_LQFP100_TRUE to STM32F427VIT_LQFP100]

## STM32F407VETx_LQFP100_TRUE
designator U?, comment STM32F407VITx
HelpURL: L:\Dev\Техническая документация\Микроконтроллеры\ST\4xx\40x\STM32F405(7)xx_datasheet.pdf; ComponentLink1Description: Reference Manual; ComponentLink1URL: L:\Dev\Техническая документация\Микроконтроллеры\ST\4xx\F4(05,07,15,17,27,37,29,39) Reference manual rev.12 DM00031020 RM0090.pdf
footprint LQFP100_UNICONT
pins: 1 (TCK/A23/EM-Tx3) PE2~ (io), 2 (TD0/A19) PE3~ (io), 3 (TD1/A20/DC-D4) PE4~ (io), 4 (TD2/A21/T9-1/DC-D6) PE5~ (io), 5 (TD3/A22/T9-2/DC-D7) PE6~ (io), 6 VBAT (power), 7 ~PC13 (AF1) (io), 8 ~(OSC32_IN) PC14 (io), 9 ~(OSC32_OUT) PC15 (io), 10 Vss5 (power), 11 Vdd5 (power), 12 ~(PH0) OSC_IN (io), 13 ~(PH1) OSC_OUT (io), 14 NRST (in), 15 ~PC0 (HS-STP/AD123-10) (io), 16 ~PC1 (EMDC/AD123-11) (io), 17 ~PC2 (EM-Tx2/MISO2/SD2e/HS-DIR/AD123-12) (io), 18 ~PC3 (EM-TxC/MOSI2/SD2/HS-Nxt/AD123-13) (io), 19 Vdd12 (power), 20 Vssa (power), 21 Vref+ (power), 22 Vdda (power), 23 ~PA0 (EM-CRS/WkUp/UCTS2/UTx4/T2-1E/T5-1/T8E/AD123-0) (io), 24 ~PA1 (EM-RxC/ER-CK/URTS2/URx4/T5-2/Tm2-2/AD123-1) (io), 25 ~PA2 (EMDIO/UTx2/T5-3/T9-1/T2-3/AD123-2) (io), 26 ~PA3 (EM-COL/URx2/T5-4/T9-2/T2-4/HS-D0/AD123-3) (io), 27 Vss4 (power), 28 Vdd4 (power), 29 PA4 (NSS1/NSS3/UCK2/DC-Hsy/HS-SOF/WS3/DAC1/AD12-4) (io), 30 PA5 (SCK1/HS-CK/T2-1E/T8IN/DAC2/AD12-5) (io), 31 ~PA6 (MISO1/T8-BK/T13-1/DC-PCK/T3-1/T1-BK/AD12-6) (io), 32 ~PA7 (EM-RxDV/ER-CDV/MOSI1/T8-1N/T14-1/T3-2/T1-1N/AD12-7) (io), 33 ~PC4 (EM-Rx0/ER-Rx0/AD12-14) (io), 34 ~PC5 (EM-Rx1/ER-Rx1/AD12-15) (io), 35 ~PB0 (EM-Rx2/T3-3/T8-2N/HS-D1/T1-2N/AD12-8) (io), 36 ~PB1 (EM-Rx3/T3-4/T8-3N/HS-D2/HS-IntN/T1-3N/AD12-9) (io), 37 ~PB2/BOOT1 (in), 38 (D4/T1-E) PE7~ (io), 39 (D5/T1-1N) PE8~ (io), 40 (D6/T1-1) PE9~ (io), 41 (D7/T1-2N) PE10~ (io), 42 (D8/T1-2) PE11~ (io), 43 (D9/T1-3N) PE12~ (io), 44 (D10/T1-3) PE13~ (io), 45 (D11/T1-4) PE14~ (io), 46 (D12/T1-BK) PE15~ (io), 47 ~PB10 (EM-RxER/SCK2/CK2/SCL2/UTx3/HS-D3/T2-3) (io), 48 ~PB11 (EM-TxEN/ER-TxEN/SDA2/URx3/HS-D4/T2-4) (io), 49 Vcap1 (power), 50 Vdd1 (power), 51 ~PB12 (EM-Tx0/ER-Tx0/NSS2/WS2/SMBA2/UCK3/T1-BK/CRx2/HS-D5/HS-ID) (io) "ffgfgg", 52 ~PB13 (EM-Tx1/ER-Tx1/SCK2/CK2/UCTS3/T1-1N/CTx2/HS-D6/HS-VB) (io), 53 ~PB14 (MISO2/SD2e/T1-2N/T12-1/HS-DM/URTS3/T8-2N) (io), 54 ~PB15 (MOSI2/SD2/T1-3N/T8-3N/T12-2/HS-DP/50Hz) (io), 55 ~PD8 (UTx3/D13) (io), 56 ~PD9 (URx3/D14) (io), 57 ~PD10 (UCK3/D15) (io), 58 ~PD11 (UCTS3/CLE/A16) (io), 59 ~PD12 (URTS3/ALE/A17/T4-1) (io), 60 ~PD13 (T4-2/A18) (io), 61 ~PD14 (T4-3/D0) (io), 62 ~PD15 (T4-4/D1) (io), 63 ~PC6 (MCK2/T8-1/SD-D6/UTx6/DC-D0/T3-1) (io), 64 ~PC7 (MCK3/T8-2/SD-D7/URx6/DC-D1/T3-2) (io), 65 ~PC8 (T8-3/SD-D0/T3-3/UCK6/DC-D2) (io), 66 ~PC9 (CKIN2,3/MCO2/T8-4/SD-D1/SDA3/DC-D3/T3-4) (io), 67 ~PA8 (MCO1/UCK1/T1-1/SCL3/FS-SOF) (io), 68 ~PA9 (UTx1/T1-2/SMBA3/DC-D0/FS-VB) (io), 69 ~PA10 (URx1/T1-3/FS-ID/DC-D1) (io), 70 ~PA11 (UCTS1/CRx1/T1-4/FS-DM) (io), 71 ~PA12 (URTS1/CTx1/T1E/FS-DP) (io), 72 ~(PA13) JTMS-SWDIO (io), 73 Vcap2 (power), 74 Vss2 (power), 75 Vdd2 (power), 76 ~(PA14) JTCK-SWCLK (io), 77 ~PA15 (JTDI/NSS3/WS3/T2-1E/NSS1) (io), 78 ~PC10 (SCK3/CK3/UTx4/SD-D2/DC-D8/UTx3) (io), 79 ~PC11 (MISO3/SD3e/URx4/SD-D3/DC-D4/URx3) (io), 80 ~PC12 (MOSI3/SD3/UTx5/SD-CK/DC-D9/UCK3) (io), 81 ~PD0 (CRx1/D2) (io), 82 ~PD1 (CTx1/D3) (io), 83 ~PD2 (URx5/T3E/SD-Cmd/DC-D11) (io), 84 ~PD3 (UCTS2/Fclk) (io), 85 ~PD4 (URTS2/NOE) (io), 86 ~PD5 (UTx2/NWE) (io), 87 ~PD6 (URx2/NWAIT) (io), 88 ~PD7 (UCK2/NCE2/NE1) (io), 89 ~PB3 (JTDO/TRACESWO/SCK1,3/CK3/T2-2) (io), 90 ~PB4 (NJTRST/SD3e/T3-1/MISO1,3) (io), 91 ~PB5 (EPPSO/SMBA1/CRx2/HS-D7/T3-2/MOSI1,3/SD3/DC-D10) (io), 92 ~PB6 (SCL1/T4-1/CTx2/DC-D5/UTx1) (io), 93 ~PB7 (SDA1/NL/DC-Vsy/URx1/T4-2) (io), 94 BOOT0 (in), 95 ~PB8 (EM-Tx3/T4-3/SD-D4/T10-1/DC-D6/SCL1/CRx1) (io), 96 ~PB9 (NSS2/WS2/T4-4/T11-1/SD-D5/DC-D7/SDA1/CTx1) (io), 97 (T4E/NBL0/DC-D2) PE0~ (io), 98 (NBL1/DC-D3)PE1~ (io), 99 Vss (power), 100 Vdd3 (power)

## STM32F427VIT_LQFP100
designator U?, comment STM32F427VIT
HelpURL: L:\Dev\Техническая документация\Микроконтроллеры\ST\4xx\42x_43x\Datasheet_427(9).pdf; ComponentLink1Description: Reference manual; ComponentLink1URL: L:\Dev\Техническая документация\Микроконтроллеры\ST\4xx\42x_43x\STM32F42(3)x_Reference manual.pdf
footprint LQFP100_UNICONT
pins: 1 (TraceCLK/SCK4/MCLK-A1/MII-TxD3/FMC-A23) PE2 ~ (io), 2 (TraceD0/SD-B1/FMC-A19) PE3 ~ (io), 3 (TraceD1/ NSS4/FS-A1/FMC-A20/DCMI-D4) PE4 ~ (io), 4 (TraceD2/T9-1/MISO4/ASCK-A1/FMC-A21/DCMI-D6) PE5 ~ (io), 5 (TraceD3/T9-2/MOSI4/SD-A1/FMC-A22/DCMI-D7) PE6 ~ (io), 6 Vbat (power), 7 ~ PC13 (TAMP-1) (io), 8 ~ OSC32_IN (PC14) (io), 9 ~ OSC32_OUT (PC15) (io), 10 Vss (power), 11 Vdd (power), 12 ~ OSC_IN (PH0) (io), 13 ~ OSC_OUT (PH1) (io), 14 NRST (io), 15 ~ PC0 (HS-STP/FMC-SDNWE/AD123-10) (io), 16 ~ PC1 (MDC/AD123-11) (io), 17 ~ PC2 (MISO2/SDe2/HS-DIR/MII-TxD2/FMC-SDNE0/AD123-12) (io), 18 ~ PC3 (MOSI2/SD2/HS-NXT/MIITxCLK/FMC-SDCKE0/AD123-13) (io), 19 Vdd (power), 20 Vssa (power), 21 Vref+ (power), 22 Vdda (power), 23 ~ PA0 (WKUP/T2-1/T2-ETR/T5-1/T8-ETR/UsCTS2/UTx4/MII-CRS/ADC123-0) (io), 24 ~ PA1 (T2-2/T5-2/URTS2/URx4/MII_RxCK/RMII-RefCK/AD123-1) (io), 25 ~ PA2 (T2-3/T5-3/T9-1/UsTx2/MDIO/AD123-2) (io), 26 ~ PA3 (T2-4/T5-4/T9-2/UsRx2/HS-D0/MII-COL/AD123-3) (io), 27 Vss (power), 28 Vdd (power), 29    PA4 (NSS1/NSS3/WS3/USCK2/HS-SOF/DCMI-Hsync/AD12-4/DAC1) (io), 30    PA5 (T2-1/T2-ETR/T8-1N/SCK1/HS-CK/AD12-5/DAC2) (io), 31 ~ PA6 (T1-BKIN/T3-1/T8-BKIN/MISO1/T13-1/DCMI_PxCLK/AD12-6) (io), 32 ~ PA7 (T1-1N/T3-2/T8-1N/MOSI1/T14-1/MII-RxDV/RMII-CRSDV/AD12-7) (io), 33 ~ PC4 (MII-RxD0/RMII-RxD0/AD12-14) (io), 34 ~ PC5 (MII-RxD1/RMII-RxD1/AD12-15) (io), 35 ~ PB0 (T1-2N/T3-3/T8-2N/HS-D1/MII-RxD2/AD12-8) (io), 36 ~ PB1 (T1-3N/T3-4/T8-3N/HS-D2/MII-RxD3/AD12-9) (io), 37 ~ BOOT1 (PB2) (io), 38  (T1-ETR/URx7/FMC-D4) PE7 ~ (io), 39 (T1-1N/UTx7/FMC-D5) PE8 ~ (io), 40 (T1-1/FMC-D6) PE9 ~ (io), 41 (T1-2N/FMC-D7) PE10 ~ (io), 42  (T1-2/NSS4/FMC-D8) PE11 ~ (io), 43 (T1-3N/SCK4/FMC-D9) PE12 ~ (io), 44 (T1-3/MISO4/FMC-D10) PE13 ~ (io), 45 (T1-4/MOSI4/FMC-D11) PE14 ~ (io), 46 (T1-BKIN/FMC-D12) PE15 ~ (io), 47 ~ PB10 (T2-3/SCL2/SCK2/CK2/UsTx3/HS-D3/MII-RxER) (io), 48 ~ PB11 (T2-4/SDA2/UsRx3/HS-D4/MII-TxEN/RMII-TxEN) (io), 49 Vcap1 (power), 50 Vdd (power), 51 ~ PB12 (T1-BKIN/SMBA2/NSS2/WS2/UsCK3/CRx2/HS-D5/MII-TxD0/RMII-TxD0) (io), 52 ~ PB13 (T1-1N/SCK2/CK2/UsCTS3/CTx2/HS-D6/MII-TxD1/RMII-TxD1/HS-VBUS) (io), 53 ~ PB14 (T1-2N/T8-2N/MISO2/SDe2/UsRTS3/T12-1/HS-DM) (io), 54 ~ PB15 (RTC-RefIN/T1-3N/T8-3N/MOSI2/SD2/T12-2/HS-DP) (io), 55 ~ PD8 (UsTx3/FMC-D13) (io), 56 ~ PD9 (UsRx3/FMC-D14) (io), 57 ~ PD10 (UsCK3/FMC-D15) (io), 58 ~ PD11 (UsCTS3/FMC-A16) (io), 59 ~ PD12 (T4-1/UsRTS3/FMC-A17) (io), 60 ~ PD13 (T4-2/FMC-A18) (io), 61 ~ PD14 (T4-3/FMC-D0) (io), 62 ~ PD15 (T4-4/FMC-D1) (io), 63 ~ PC6 (T3-1/T8-1/MCK2/UsTx6/SD-D6/DCMI-D0) (io), 64 ~ PC7 (T3-2/T8-2/MCK3/UsRx6/SD-D7/DCMI-D1) (io), 65 ~ PC8 (T3-3/T8-3/UsCK6/SD-D0/DCMI-D2) (io), 66 ~ PC9 (MCO2/T3-4/T8-4/SDA3/CKIN/SD-D1/DCMI-D3) (io), 67 ~ PA8 (MCO1/T1-1/SCL3/UsCK1/FS-SOF) (io), 68 ~ PA9 (T1-2/SMBA3/UsTx1/DCMI-D0/FS-VBUS) (io), 69 ~ PA10 (T1-3/UsRx1/FS-ID/DCMI-D1) (io), 70 ~ PA11 (T1-4/UsCTS1/CRx1/FS-DM) (io), 71 ~ PA12 (T1-ETR/UsRTS1/CTx1/FS-DP) (io), 72 ~ JTMS-SWDIO (PA13) (io), 73 Vcap2 (power), 74 Vss (power), 75 Vdd (power), 76 ~ JTCK-SWCLK (PA14) (io), 77 ~ PA15 (JTDI/T2-1/T2-ETR/NSS1/NSS3/WS3) (io), 78 ~ PC10 (SCK3/CK3/UsTx3/UTx4/SD-D2/DCMI-D8) (io), 79 ~ PC11 (SDe3/MISO3/UsRx3/URx4/Sd-D3/DCMI-D4) (io), 80 ~ PC12 (MOSI3/SD3/UsCK3/UTx5/SD-CK/DCMI-D9) (io), 81 ~ PD0 (CRx1/FMC-D2) (io), 82 ~ PD1 (CTx1/FMC-D3) (io), 83 ~ PD2 (T3-ETR/URx5/SD-CMD/DCMI-D11) (io), 84 ~ PD3 (SCK2/CK2/UsCTS2/FMC-CK/DCMI-D5) (io), 85 ~ PD4 (URTS2/FMC-NOE) (io), 86 ~ PD5 (UsTx2/FMC-NWE) (io), 87 ~ PD6 (MOSI3/SD3/SD_A1/UsRx2/FMC-NWAIT/DCMI-D10) (io), 88 ~ PD7 (UsCK2/FMC-NE1/FMC-NCE2) (io), 89 ~ PB3 (JTDO/TRACESWO/T2-2/SCK1/SCK3/CK3) (io), 90 ~ PB4 (NJTRST/T3-1/MISO1/MISO3/SDe3) (io), 91 ~ PB5 (T3-2/SMBA1/MOSI1/MOSI3/SD3/CRx2/HS-D7/PPS-OUT/FMC-SDCKE1/DCMI-D10) (io), 92 ~ PB6 (T4-1/SCL1/UsTx1/CTx2/FMC-SDNE1/DCMI-D5) (io), 93 ~ PB7 (T4-2/SDA1/UsRx1/FMC-NL/DCMI-Vsync) (io), 94 BOOT0 (io), 95 ~ PB8 (T4-3/T10-1/SCL1/CRx1/MII-TxD3/SD-D4/DCMI-D6) (io), 96 ~ PB9 (T4-4/T11-1/SDA1/NSS2/WS2/CTx1/SD-D5/DCMI-D7) (io), 97 (T4-ETR/URx8/FMC-NBL0/DCMI-D2) PE0 ~ (io), 98 (UTx8/FMC-NBL1/DCMI-D3) PE1 ~ (io), 99 Vss (power), 100 Vdd (power)

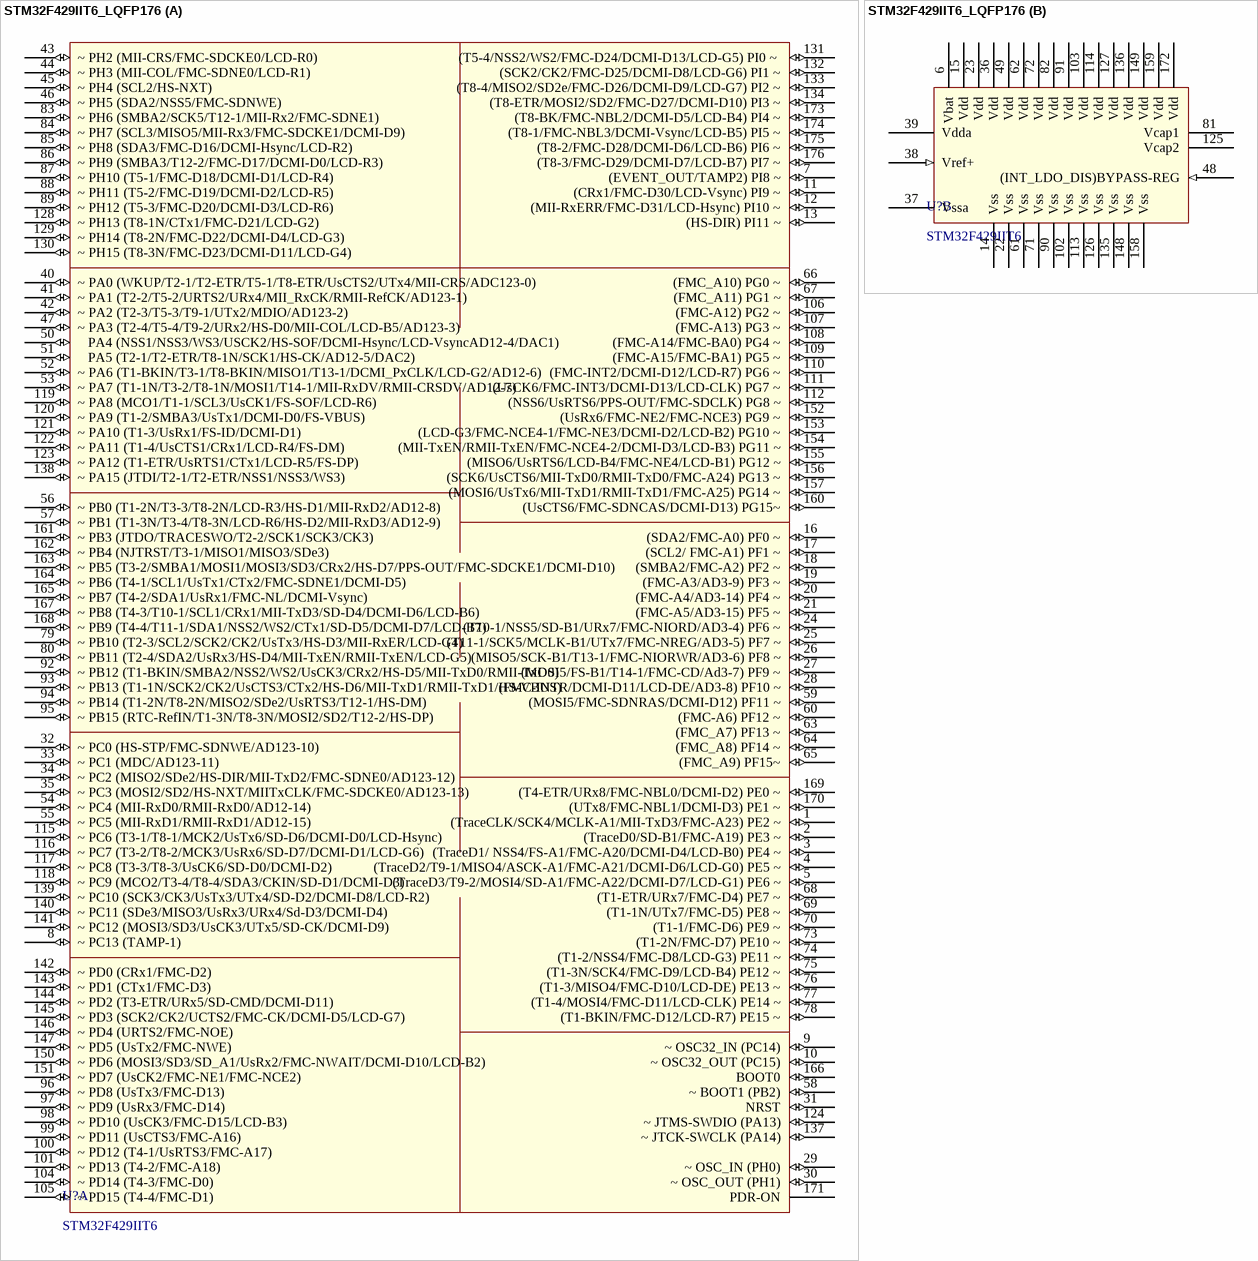
[diagram p34: symbol STM32F429IIT6_LQFP176]

## STM32F429IIT6_LQFP176
designator U?, comment STM32F429IIT6
Supply Current max(A): 0.140; HelpURL: L:\Dev\Техническая документация\Микроконтроллеры\ST\4xx\42x_43x\Datasheet_427(9).pdf; ComponentLink1Description: Datasheet; ComponentLink1URL: L:\Dev\Техническая документация\Микроконтроллеры\ST\4xx\42x_43x\Datasheet_427(9).pdf; ComponentLink2Description: Reference Manual; ComponentLink2URL: L:\Dev\Техническая документация\Микроконтроллеры\ST\4xx\42x_43x\STM32F42(3)x_Reference manual.pdf
footprint LQFP176-0.5_UNICONT (TSQFP, 176-Leads, Body 24,00x24,00mm, Pitch 0,50mm, IPC High Density)
part A pins: 1 (TraceCLK/SCK4/MCLK-A1/MII-TxD3/FMC-A23) PE2 ~ (io), 2 (TraceD0/SD-B1/FMC-A19) PE3 ~ (io), 3 (TraceD1/ NSS4/FS-A1/FMC-A20/DCMI-D4/LCD-B0) PE4 ~ (io), 4 (TraceD2/T9-1/MISO4/ASCK-A1/FMC-A21/DCMI-D6/LCD-G0) PE5 ~ (io), 5 (TraceD3/T9-2/MOSI4/SD-A1/FMC-A22/DCMI-D7/LCD-G1) PE6 ~ (io), 7 (EVENT_OUT/TAMP2) PI8 ~ (io), 8 ~ PC13 (TAMP-1) (io), 9 ~ OSC32_IN (PC14) (io), 10 ~ OSC32_OUT (PC15) (io), 11 (CRx1/FMC-D30/LCD-Vsync) PI9 ~ (io), 12 (MII-RxERR/FMC-D31/LCD-Hsync) PI10 ~ (io), 13 (HS-DIR) PI11 ~ (io), 16 (SDA2/FMC-A0) PF0 ~ (io), 17 (SCL2/ FMC-A1) PF1 ~ (io), 18 (SMBA2/FMC-A2) PF2 ~ (io), 19 (FMC-A3/AD3-9) PF3 ~ (io), 20 (FMC-A4/AD3-14) PF4 ~ (io), 21 (FMC-A5/AD3-15) PF5 ~ (io), 24 (T10-1/NSS5/SD-B1/URx7/FMC-NIORD/AD3-4) PF6 ~ (io), 25 (T11-1/SCK5/MCLK-B1/UTx7/FMC-NREG/AD3-5) PF7 ~ (io), 26 (MISO5/SCK-B1/T13-1/FMC-NIORWR/AD3-6) PF8 ~ (io), 27 (MOSI5/FS-B1/T14-1/FMC-CD/Ad3-7) PF9 ~ (io), 28 (FMC-INTR/DCMI-D11/LCD-DE/AD3-8) PF10 ~ (io), 29 ~ OSC_IN (PH0) (io), 30 ~ OSC_OUT (PH1) (io), 31 NRST (io), 32 ~ PC0 (HS-STP/FMC-SDNWE/AD123-10) (io), 33 ~ PC1 (MDC/AD123-11) (io), 34 ~ PC2 (MISO2/SDe2/HS-DIR/MII-TxD2/FMC-SDNE0/AD123-12) (io), 35 ~ PC3 (MOSI2/SD2/HS-NXT/MIITxCLK/FMC-SDCKE0/AD123-13) (io), 40 ~ PA0 (WKUP/T2-1/T2-ETR/T5-1/T8-ETR/UsCTS2/UTx4/MII-CRS/ADC123-0) (io), 41 ~ PA1 (T2-2/T5-2/URTS2/URx4/MII_RxCK/RMII-RefCK/AD123-1) (io), 42 ~ PA2 (T2-3/T5-3/T9-1/UTx2/MDIO/AD123-2) (io), 43 ~ PH2 (MII-CRS/FMC-SDCKE0/LCD-R0) (io), 44 ~ PH3 (MII-COL/FMC-SDNE0/LCD-R1) (io), 45 ~ PH4 (SCL2/HS-NXT) (io), 46 ~ PH5 (SDA2/NSS5/FMC-SDNWE) (io), 47 ~ PA3 (T2-4/T5-4/T9-2/URx2/HS-D0/MII-COL/LCD-B5/AD123-3) (io), 50    PA4 (NSS1/NSS3/WS3/USCK2/HS-SOF/DCMI-Hsync/LCD-VsyncAD12-4/DAC1) (io), 51    PA5 (T2-1/T2-ETR/T8-1N/SCK1/HS-CK/AD12-5/DAC2) (io), 52 ~ PA6 (T1-BKIN/T3-1/T8-BKIN/MISO1/T13-1/DCMI_PxCLK/LCD-G2/AD12-6) (io), 53 ~ PA7 (T1-1N/T3-2/T8-1N/MOSI1/T14-1/MII-RxDV/RMII-CRSDV/AD12-7) (io), 54 ~ PC4 (MII-RxD0/RMII-RxD0/AD12-14) (io), 55 ~ PC5 (MII-RxD1/RMII-RxD1/AD12-15) (io), 56 ~ PB0 (T1-2N/T3-3/T8-2N/LCD-R3/HS-D1/MII-RxD2/AD12-8) (io), 57 ~ PB1 (T1-3N/T3-4/T8-3N/LCD-R6/HS-D2/MII-RxD3/AD12-9) (io), 58 ~ BOOT1 (PB2) (io), 59 (MOSI5/FMC-SDNRAS/DCMI-D12) PF11 ~ (io), 60 (FMC-A6) PF12 ~ (io), 63 (FMC_A7) PF13 ~ (io), 64 (FMC_A8) PF14 ~ (io), 65 (FMC_A9) PF15~ (io), 66 (FMC_A10) PG0 ~ (io), 67 (FMC_A11) PG1 ~ (io), 68  (T1-ETR/URx7/FMC-D4) PE7 ~ (io), 69 (T1-1N/UTx7/FMC-D5) PE8 ~ (io), 70 (T1-1/FMC-D6) PE9 ~ (io), 73 (T1-2N/FMC-D7) PE10 ~ (io), 74  (T1-2/NSS4/FMC-D8/LCD-G3) PE11 ~ (io), 75 (T1-3N/SCK4/FMC-D9/LCD-B4) PE12 ~ (io), 76 (T1-3/MISO4/FMC-D10/LCD-DE) PE13 ~ (io), 77 (T1-4/MOSI4/FMC-D11/LCD-CLK) PE14 ~ (io), 78 (T1-BKIN/FMC-D12/LCD-R7) PE15 ~ (io), 79 ~ PB10 (T2-3/SCL2/SCK2/CK2/UsTx3/HS-D3/MII-RxER/LCD-G4)  (io), 80 ~ PB11 (T2-4/SDA2/UsRx3/HS-D4/MII-TxEN/RMII-TxEN/LCD-G5) (io), 83 ~ PH6 (SMBA2/SCK5/T12-1/MII-Rx2/FMC-SDNE1) (io), 84 ~ PH7 (SCL3/MISO5/MII-Rx3/FMC-SDCKE1/DCMI-D9) (io), 85 ~ PH8 (SDA3/FMC-D16/DCMI-Hsync/LCD-R2) (io), 86 ~ PH9 (SMBA3/T12-2/FMC-D17/DCMI-D0/LCD-R3) (io), 87 ~ PH10 (T5-1/FMC-D18/DCMI-D1/LCD-R4) (io), 88 ~ PH11 (T5-2/FMC-D19/DCMI-D2/LCD-R5) (io), 89 ~ PH12 (T5-3/FMC-D20/DCMI-D3/LCD-R6) (io), 92 ~ PB12 (T1-BKIN/SMBA2/NSS2/WS2/UsCK3/CRx2/HS-D5/MII-TxD0/RMII-TxD0) (io), 93 ~ PB13 (T1-1N/SCK2/CK2/UsCTS3/CTx2/HS-D6/MII-TxD1/RMII-TxD1/HS-VBUS) (io), 94 ~ PB14 (T1-2N/T8-2N/MISO2/SDe2/UsRTS3/T12-1/HS-DM) (io), 95 ~ PB15 (RTC-RefIN/T1-3N/T8-3N/MOSI2/SD2/T12-2/HS-DP) (io), 96 ~ PD8 (UsTx3/FMC-D13) (io), 97 ~ PD9 (UsRx3/FMC-D14) (io), 98 ~ PD10 (UsCK3/FMC-D15/LCD-B3) (io), 99 ~ PD11 (UsCTS3/FMC-A16) (io), 100 ~ PD12 (T4-1/UsRTS3/FMC-A17) (io), 101 ~ PD13 (T4-2/FMC-A18) (io), 104 ~ PD14 (T4-3/FMC-D0) (io), 105 ~ PD15 (T4-4/FMC-D1) (io), 106 (FMC-A12) PG2 ~ (io), 107 (FMC-A13) PG3 ~ (io), 108 (FMC-A14/FMC-BA0) PG4 ~ (io), 109 (FMC-A15/FMC-BA1) PG5 ~ (io), 110 (FMC-INT2/DCMI-D12/LCD-R7) PG6 ~ (io), 111 (UsCK6/FMC-INT3/DCMI-D13/LCD-CLK) PG7 ~ (io), 112 (NSS6/UsRTS6/PPS-OUT/FMC-SDCLK) PG8 ~ (io), 115 ~ PC6 (T3-1/T8-1/MCK2/UsTx6/SD-D6/DCMI-D0/LCD-Hsync) (io), 116 ~ PC7 (T3-2/T8-2/MCK3/UsRx6/SD-D7/DCMI-D1/LCD-G6) (io), 117 ~ PC8 (T3-3/T8-3/UsCK6/SD-D0/DCMI-D2) (io), 118 ~ PC9 (MCO2/T3-4/T8-4/SDA3/CKIN/SD-D1/DCMI-D3) (io), 119 ~ PA8 (MCO1/T1-1/SCL3/UsCK1/FS-SOF/LCD-R6) (io), 120 ~ PA9 (T1-2/SMBA3/UsTx1/DCMI-D0/FS-VBUS) (io), 121 ~ PA10 (T1-3/UsRx1/FS-ID/DCMI-D1) (io), 122 ~ PA11 (T1-4/UsCTS1/CRx1/LCD-R4/FS-DM) (io), 123 ~ PA12 (T1-ETR/UsRTS1/CTx1/LCD-R5/FS-DP) (io), 124 ~ JTMS-SWDIO (PA13) (io), 128 ~ PH13 (T8-1N/CTx1/FMC-D21/LCD-G2) (io), 129 ~ PH14 (T8-2N/FMC-D22/DCMI-D4/LCD-G3) (io), 130 ~ PH15 (T8-3N/FMC-D23/DCMI-D11/LCD-G4) (io), 131 (T5-4/NSS2/WS2/FMC-D24/DCMI-D13/LCD-G5) PI0 ~  (io), 132 (SCK2/CK2/FMC-D25/DCMI-D8/LCD-G6) PI1 ~ (io), 133 (T8-4/MISO2/SD2e/FMC-D26/DCMI-D9/LCD-G7) PI2 ~ (io), 134 (T8-ETR/MOSI2/SD2/FMC-D27/DCMI-D10) PI3 ~ (io), 137 ~ JTCK-SWCLK (PA14) (io), 138 ~ PA15 (JTDI/T2-1/T2-ETR/NSS1/NSS3/WS3) (io), 139 ~ PC10 (SCK3/CK3/UsTx3/UTx4/SD-D2/DCMI-D8/LCD-R2) (io), 140 ~ PC11 (SDe3/MISO3/UsRx3/URx4/Sd-D3/DCMI-D4) (io), 141 ~ PC12 (MOSI3/SD3/UsCK3/UTx5/SD-CK/DCMI-D9) (io), 142 ~ PD0 (CRx1/FMC-D2) (io), 143 ~ PD1 (CTx1/FMC-D3) (io), 144 ~ PD2 (T3-ETR/URx5/SD-CMD/DCMI-D11) (io), 145 ~ PD3 (SCK2/CK2/UCTS2/FMC-CK/DCMI-D5/LCD-G7) (io), 146 ~ PD4 (URTS2/FMC-NOE) (io), 147 ~ PD5 (UsTx2/FMC-NWE) (io), 150 ~ PD6 (MOSI3/SD3/SD_A1/UsRx2/FMC-NWAIT/DCMI-D10/LCD-B2) (io), 151 ~ PD7 (UsCK2/FMC-NE1/FMC-NCE2) (io), 152 (UsRx6/FMC-NE2/FMC-NCE3) PG9 ~ (io), 153 (LCD-G3/FMC-NCE4-1/FMC-NE3/DCMI-D2/LCD-B2) PG10 ~ (io), 154 (MII-TxEN/RMII-TxEN/FMC-NCE4-2/DCMI-D3/LCD-B3) PG11 ~ (io), 155 (MISO6/UsRTS6/LCD-B4/FMC-NE4/LCD-B1) PG12 ~ (io), 156 (SCK6/UsCTS6/MII-TxD0/RMII-TxD0/FMC-A24) PG13 ~ (io), 157 (MOSI6/UsTx6/MII-TxD1/RMII-TxD1/FMC-A25) PG14 ~ (io), 160 (UsCTS6/FMC-SDNCAS/DCMI-D13) PG15~ (io), 161 ~ PB3 (JTDO/TRACESWO/T2-2/SCK1/SCK3/CK3) (io), 162 ~ PB4 (NJTRST/T3-1/MISO1/MISO3/SDe3) (io), 163 ~ PB5 (T3-2/SMBA1/MOSI1/MOSI3/SD3/CRx2/HS-D7/PPS-OUT/FMC-SDCKE1/DCMI-D10) (io), 164 ~ PB6 (T4-1/SCL1/UsTx1/CTx2/FMC-SDNE1/DCMI-D5) (io), 165 ~ PB7 (T4-2/SDA1/UsRx1/FMC-NL/DCMI-Vsync) (io), 166 BOOT0 (io), 167 ~ PB8 (T4-3/T10-1/SCL1/CRx1/MII-TxD3/SD-D4/DCMI-D6/LCD-B6) (io), 168 ~ PB9 (T4-4/T11-1/SDA1/NSS2/WS2/CTx1/SD-D5/DCMI-D7/LCD-B7) (io), 169 (T4-ETR/URx8/FMC-NBL0/DCMI-D2) PE0 ~ (io), 170 (UTx8/FMC-NBL1/DCMI-D3) PE1 ~ (io), 171 PDR-ON (power), 173 (T8-BK/FMC-NBL2/DCMI-D5/LCD-B4) PI4 ~ (io), 174 (T8-1/FMC-NBL3/DCMI-Vsync/LCD-B5) PI5 ~ (io), 175 (T8-2/FMC-D28/DCMI-D6/LCD-B6) PI6 ~ (io), 176 (T8-3/FMC-D29/DCMI-D7/LCD-B7) PI7 ~ (io)
part B pins: 6 Vbat (power), 14 Vss (power), 15 Vdd (power), 22 Vss (power), 23 Vdd (power), 36 Vdd (power), 37 Vssa (power), 38 Vref+ (in), 39 Vdda (power), 48 (INT_LDO_DIS)BYPASS-REG (in), 49 Vdd (power), 61 Vss (power), 62 Vdd (power), 71 Vss (power), 72 Vdd (power), 81 Vcap1 (power), 82 Vdd (power), 90 Vss (power), 91 Vdd (power), 102 Vss (power), 103 Vdd (power), 113 Vss (power), 114 Vdd (power), 125 Vcap2 (power), 126 Vss (power), 127 Vdd (power), 135 Vss (power), 136 Vdd (power), 148 Vss (power), 149 Vdd (power), 158 Vss (power), 159 Vdd (power), 172 Vdd (power)

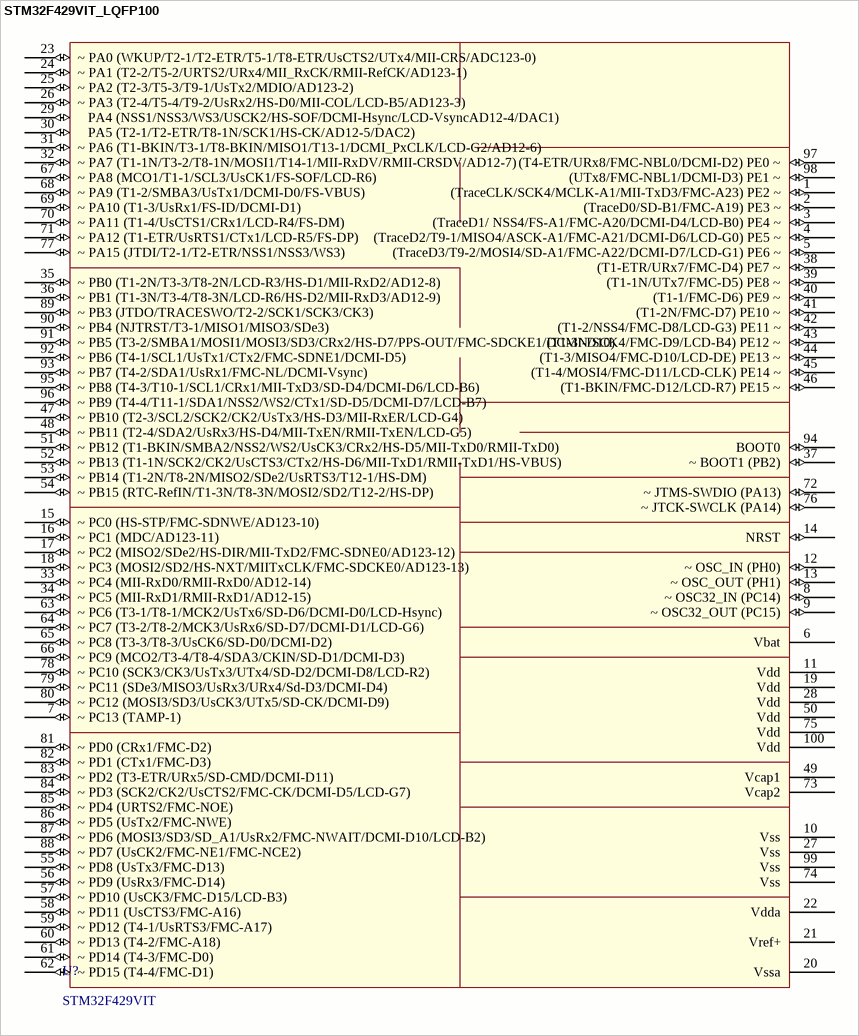
[diagram p35: symbol STM32F429VIT_LQFP100]

## STM32F429VIT_LQFP100
designator U?, comment STM32F429VIT
HelpURL: L:\Dev\Техническая документация\Микроконтроллеры\ST\4xx\42x_43x\Datasheet_427(9).pdf; ComponentLink1Description: Reference manual; ComponentLink1URL: L:\Dev\Техническая документация\Микроконтроллеры\ST\4xx\42x_43x\STM32F42(3)x_Reference manual.pdf
footprint LQFP100_UNICONT
pins: 1 (TraceCLK/SCK4/MCLK-A1/MII-TxD3/FMC-A23) PE2 ~ (io), 2 (TraceD0/SD-B1/FMC-A19) PE3 ~ (io), 3 (TraceD1/ NSS4/FS-A1/FMC-A20/DCMI-D4/LCD-B0) PE4 ~ (io), 4 (TraceD2/T9-1/MISO4/ASCK-A1/FMC-A21/DCMI-D6/LCD-G0) PE5 ~ (io), 5 (TraceD3/T9-2/MOSI4/SD-A1/FMC-A22/DCMI-D7/LCD-G1) PE6 ~ (io), 6 Vbat (power), 7 ~ PC13 (TAMP-1) (io), 8 ~ OSC32_IN (PC14) (io), 9 ~ OSC32_OUT (PC15) (io), 10 Vss (power), 11 Vdd (power), 12 ~ OSC_IN (PH0) (io), 13 ~ OSC_OUT (PH1) (io), 14 NRST (io), 15 ~ PC0 (HS-STP/FMC-SDNWE/AD123-10) (io), 16 ~ PC1 (MDC/AD123-11) (io), 17 ~ PC2 (MISO2/SDe2/HS-DIR/MII-TxD2/FMC-SDNE0/AD123-12) (io), 18 ~ PC3 (MOSI2/SD2/HS-NXT/MIITxCLK/FMC-SDCKE0/AD123-13) (io), 19 Vdd (power), 20 Vssa (power), 21 Vref+ (power), 22 Vdda (power), 23 ~ PA0 (WKUP/T2-1/T2-ETR/T5-1/T8-ETR/UsCTS2/UTx4/MII-CRS/ADC123-0) (io), 24 ~ PA1 (T2-2/T5-2/URTS2/URx4/MII_RxCK/RMII-RefCK/AD123-1) (io), 25 ~ PA2 (T2-3/T5-3/T9-1/UsTx2/MDIO/AD123-2) (io), 26 ~ PA3 (T2-4/T5-4/T9-2/UsRx2/HS-D0/MII-COL/LCD-B5/AD123-3) (io), 27 Vss (power), 28 Vdd (power), 29    PA4 (NSS1/NSS3/WS3/USCK2/HS-SOF/DCMI-Hsync/LCD-VsyncAD12-4/DAC1) (io), 30    PA5 (T2-1/T2-ETR/T8-1N/SCK1/HS-CK/AD12-5/DAC2) (io), 31 ~ PA6 (T1-BKIN/T3-1/T8-BKIN/MISO1/T13-1/DCMI_PxCLK/LCD-G2/AD12-6) (io), 32 ~ PA7 (T1-1N/T3-2/T8-1N/MOSI1/T14-1/MII-RxDV/RMII-CRSDV/AD12-7) (io), 33 ~ PC4 (MII-RxD0/RMII-RxD0/AD12-14) (io), 34 ~ PC5 (MII-RxD1/RMII-RxD1/AD12-15) (io), 35 ~ PB0 (T1-2N/T3-3/T8-2N/LCD-R3/HS-D1/MII-RxD2/AD12-8) (io), 36 ~ PB1 (T1-3N/T3-4/T8-3N/LCD-R6/HS-D2/MII-RxD3/AD12-9) (io), 37 ~ BOOT1 (PB2) (io), 38  (T1-ETR/URx7/FMC-D4) PE7 ~ (io), 39 (T1-1N/UTx7/FMC-D5) PE8 ~ (io), 40 (T1-1/FMC-D6) PE9 ~ (io), 41 (T1-2N/FMC-D7) PE10 ~ (io), 42  (T1-2/NSS4/FMC-D8/LCD-G3) PE11 ~ (io), 43 (T1-3N/SCK4/FMC-D9/LCD-B4) PE12 ~ (io), 44 (T1-3/MISO4/FMC-D10/LCD-DE) PE13 ~ (io), 45 (T1-4/MOSI4/FMC-D11/LCD-CLK) PE14 ~ (io), 46 (T1-BKIN/FMC-D12/LCD-R7) PE15 ~ (io), 47 ~ PB10 (T2-3/SCL2/SCK2/CK2/UsTx3/HS-D3/MII-RxER/LCD-G4)  (io), 48 ~ PB11 (T2-4/SDA2/UsRx3/HS-D4/MII-TxEN/RMII-TxEN/LCD-G5) (io), 49 Vcap1 (power), 50 Vdd (power), 51 ~ PB12 (T1-BKIN/SMBA2/NSS2/WS2/UsCK3/CRx2/HS-D5/MII-TxD0/RMII-TxD0) (io), 52 ~ PB13 (T1-1N/SCK2/CK2/UsCTS3/CTx2/HS-D6/MII-TxD1/RMII-TxD1/HS-VBUS) (io), 53 ~ PB14 (T1-2N/T8-2N/MISO2/SDe2/UsRTS3/T12-1/HS-DM) (io), 54 ~ PB15 (RTC-RefIN/T1-3N/T8-3N/MOSI2/SD2/T12-2/HS-DP) (io), 55 ~ PD8 (UsTx3/FMC-D13) (io), 56 ~ PD9 (UsRx3/FMC-D14) (io), 57 ~ PD10 (UsCK3/FMC-D15/LCD-B3) (io), 58 ~ PD11 (UsCTS3/FMC-A16) (io), 59 ~ PD12 (T4-1/UsRTS3/FMC-A17) (io), 60 ~ PD13 (T4-2/FMC-A18) (io), 61 ~ PD14 (T4-3/FMC-D0) (io), 62 ~ PD15 (T4-4/FMC-D1) (io), 63 ~ PC6 (T3-1/T8-1/MCK2/UsTx6/SD-D6/DCMI-D0/LCD-Hsync) (io), 64 ~ PC7 (T3-2/T8-2/MCK3/UsRx6/SD-D7/DCMI-D1/LCD-G6) (io), 65 ~ PC8 (T3-3/T8-3/UsCK6/SD-D0/DCMI-D2) (io), 66 ~ PC9 (MCO2/T3-4/T8-4/SDA3/CKIN/SD-D1/DCMI-D3) (io), 67 ~ PA8 (MCO1/T1-1/SCL3/UsCK1/FS-SOF/LCD-R6) (io), 68 ~ PA9 (T1-2/SMBA3/UsTx1/DCMI-D0/FS-VBUS) (io), 69 ~ PA10 (T1-3/UsRx1/FS-ID/DCMI-D1) (io), 70 ~ PA11 (T1-4/UsCTS1/CRx1/LCD-R4/FS-DM) (io), 71 ~ PA12 (T1-ETR/UsRTS1/CTx1/LCD-R5/FS-DP) (io), 72 ~ JTMS-SWDIO (PA13) (io), 73 Vcap2 (power), 74 Vss (power), 75 Vdd (power), 76 ~ JTCK-SWCLK (PA14) (io), 77 ~ PA15 (JTDI/T2-1/T2-ETR/NSS1/NSS3/WS3) (io), 78 ~ PC10 (SCK3/CK3/UsTx3/UTx4/SD-D2/DCMI-D8/LCD-R2) (io), 79 ~ PC11 (SDe3/MISO3/UsRx3/URx4/Sd-D3/DCMI-D4) (io), 80 ~ PC12 (MOSI3/SD3/UsCK3/UTx5/SD-CK/DCMI-D9) (io), 81 ~ PD0 (CRx1/FMC-D2) (io), 82 ~ PD1 (CTx1/FMC-D3) (io), 83 ~ PD2 (T3-ETR/URx5/SD-CMD/DCMI-D11) (io), 84 ~ PD3 (SCK2/CK2/UsCTS2/FMC-CK/DCMI-D5/LCD-G7) (io), 85 ~ PD4 (URTS2/FMC-NOE) (io), 86 ~ PD5 (UsTx2/FMC-NWE) (io), 87 ~ PD6 (MOSI3/SD3/SD_A1/UsRx2/FMC-NWAIT/DCMI-D10/LCD-B2) (io), 88 ~ PD7 (UsCK2/FMC-NE1/FMC-NCE2) (io), 89 ~ PB3 (JTDO/TRACESWO/T2-2/SCK1/SCK3/CK3) (io), 90 ~ PB4 (NJTRST/T3-1/MISO1/MISO3/SDe3) (io), 91 ~ PB5 (T3-2/SMBA1/MOSI1/MOSI3/SD3/CRx2/HS-D7/PPS-OUT/FMC-SDCKE1/DCMI-D10) (io), 92 ~ PB6 (T4-1/SCL1/UsTx1/CTx2/FMC-SDNE1/DCMI-D5) (io), 93 ~ PB7 (T4-2/SDA1/UsRx1/FMC-NL/DCMI-Vsync) (io), 94 BOOT0 (io), 95 ~ PB8 (T4-3/T10-1/SCL1/CRx1/MII-TxD3/SD-D4/DCMI-D6/LCD-B6) (io), 96 ~ PB9 (T4-4/T11-1/SDA1/NSS2/WS2/CTx1/SD-D5/DCMI-D7/LCD-B7) (io), 97 (T4-ETR/URx8/FMC-NBL0/DCMI-D2) PE0 ~ (io), 98 (UTx8/FMC-NBL1/DCMI-D3) PE1 ~ (io), 99 Vss (power), 100 Vdd (power)

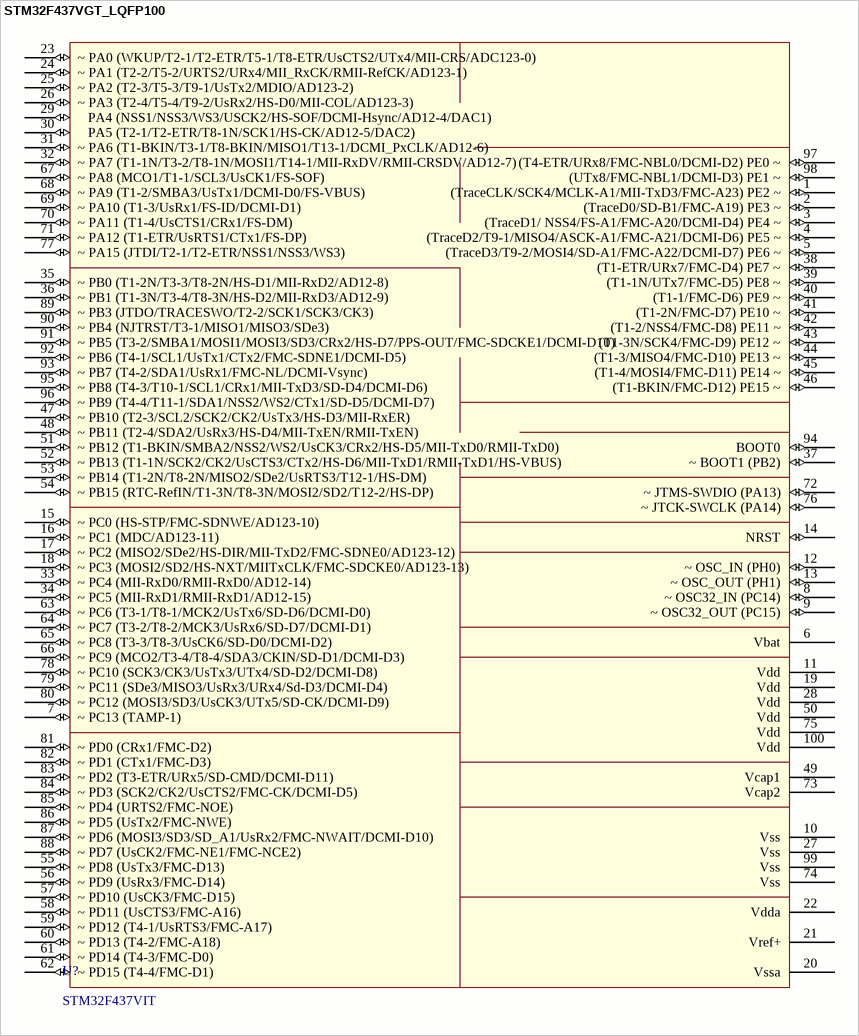
[diagram p36: symbol STM32F437VGT_LQFP100]

## STM32F437VGT_LQFP100
designator U?, comment STM32F437VIT
HelpURL: L:\Dev\Техническая документация\Микроконтроллеры\ST\4xx\42x_43x\Datasheet_437(9).pdf; ComponentLink1Description: Reference manual; ComponentLink1URL: L:\Dev\Техническая документация\Микроконтроллеры\ST\4xx\42x_43x\STM32F42(3)x_Reference manual.pdf
footprint LQFP100_UNICONT
pins: 1 (TraceCLK/SCK4/MCLK-A1/MII-TxD3/FMC-A23) PE2 ~ (io), 2 (TraceD0/SD-B1/FMC-A19) PE3 ~ (io), 3 (TraceD1/ NSS4/FS-A1/FMC-A20/DCMI-D4) PE4 ~ (io), 4 (TraceD2/T9-1/MISO4/ASCK-A1/FMC-A21/DCMI-D6) PE5 ~ (io), 5 (TraceD3/T9-2/MOSI4/SD-A1/FMC-A22/DCMI-D7) PE6 ~ (io), 6 Vbat (power), 7 ~ PC13 (TAMP-1) (io), 8 ~ OSC32_IN (PC14) (io), 9 ~ OSC32_OUT (PC15) (io), 10 Vss (power), 11 Vdd (power), 12 ~ OSC_IN (PH0) (io), 13 ~ OSC_OUT (PH1) (io), 14 NRST (io), 15 ~ PC0 (HS-STP/FMC-SDNWE/AD123-10) (io), 16 ~ PC1 (MDC/AD123-11) (io), 17 ~ PC2 (MISO2/SDe2/HS-DIR/MII-TxD2/FMC-SDNE0/AD123-12) (io), 18 ~ PC3 (MOSI2/SD2/HS-NXT/MIITxCLK/FMC-SDCKE0/AD123-13) (io), 19 Vdd (power), 20 Vssa (power), 21 Vref+ (power), 22 Vdda (power), 23 ~ PA0 (WKUP/T2-1/T2-ETR/T5-1/T8-ETR/UsCTS2/UTx4/MII-CRS/ADC123-0) (io), 24 ~ PA1 (T2-2/T5-2/URTS2/URx4/MII_RxCK/RMII-RefCK/AD123-1) (io), 25 ~ PA2 (T2-3/T5-3/T9-1/UsTx2/MDIO/AD123-2) (io), 26 ~ PA3 (T2-4/T5-4/T9-2/UsRx2/HS-D0/MII-COL/AD123-3) (io), 27 Vss (power), 28 Vdd (power), 29    PA4 (NSS1/NSS3/WS3/USCK2/HS-SOF/DCMI-Hsync/AD12-4/DAC1) (io), 30    PA5 (T2-1/T2-ETR/T8-1N/SCK1/HS-CK/AD12-5/DAC2) (io), 31 ~ PA6 (T1-BKIN/T3-1/T8-BKIN/MISO1/T13-1/DCMI_PxCLK/AD12-6) (io), 32 ~ PA7 (T1-1N/T3-2/T8-1N/MOSI1/T14-1/MII-RxDV/RMII-CRSDV/AD12-7) (io), 33 ~ PC4 (MII-RxD0/RMII-RxD0/AD12-14) (io), 34 ~ PC5 (MII-RxD1/RMII-RxD1/AD12-15) (io), 35 ~ PB0 (T1-2N/T3-3/T8-2N/HS-D1/MII-RxD2/AD12-8) (io), 36 ~ PB1 (T1-3N/T3-4/T8-3N/HS-D2/MII-RxD3/AD12-9) (io), 37 ~ BOOT1 (PB2) (io), 38  (T1-ETR/URx7/FMC-D4) PE7 ~ (io), 39 (T1-1N/UTx7/FMC-D5) PE8 ~ (io), 40 (T1-1/FMC-D6) PE9 ~ (io), 41 (T1-2N/FMC-D7) PE10 ~ (io), 42  (T1-2/NSS4/FMC-D8) PE11 ~ (io), 43 (T1-3N/SCK4/FMC-D9) PE12 ~ (io), 44 (T1-3/MISO4/FMC-D10) PE13 ~ (io), 45 (T1-4/MOSI4/FMC-D11) PE14 ~ (io), 46 (T1-BKIN/FMC-D12) PE15 ~ (io), 47 ~ PB10 (T2-3/SCL2/SCK2/CK2/UsTx3/HS-D3/MII-RxER) (io), 48 ~ PB11 (T2-4/SDA2/UsRx3/HS-D4/MII-TxEN/RMII-TxEN) (io), 49 Vcap1 (power), 50 Vdd (power), 51 ~ PB12 (T1-BKIN/SMBA2/NSS2/WS2/UsCK3/CRx2/HS-D5/MII-TxD0/RMII-TxD0) (io), 52 ~ PB13 (T1-1N/SCK2/CK2/UsCTS3/CTx2/HS-D6/MII-TxD1/RMII-TxD1/HS-VBUS) (io), 53 ~ PB14 (T1-2N/T8-2N/MISO2/SDe2/UsRTS3/T12-1/HS-DM) (io), 54 ~ PB15 (RTC-RefIN/T1-3N/T8-3N/MOSI2/SD2/T12-2/HS-DP) (io), 55 ~ PD8 (UsTx3/FMC-D13) (io), 56 ~ PD9 (UsRx3/FMC-D14) (io), 57 ~ PD10 (UsCK3/FMC-D15) (io), 58 ~ PD11 (UsCTS3/FMC-A16) (io), 59 ~ PD12 (T4-1/UsRTS3/FMC-A17) (io), 60 ~ PD13 (T4-2/FMC-A18) (io), 61 ~ PD14 (T4-3/FMC-D0) (io), 62 ~ PD15 (T4-4/FMC-D1) (io), 63 ~ PC6 (T3-1/T8-1/MCK2/UsTx6/SD-D6/DCMI-D0) (io), 64 ~ PC7 (T3-2/T8-2/MCK3/UsRx6/SD-D7/DCMI-D1) (io), 65 ~ PC8 (T3-3/T8-3/UsCK6/SD-D0/DCMI-D2) (io), 66 ~ PC9 (MCO2/T3-4/T8-4/SDA3/CKIN/SD-D1/DCMI-D3) (io), 67 ~ PA8 (MCO1/T1-1/SCL3/UsCK1/FS-SOF) (io), 68 ~ PA9 (T1-2/SMBA3/UsTx1/DCMI-D0/FS-VBUS) (io), 69 ~ PA10 (T1-3/UsRx1/FS-ID/DCMI-D1) (io), 70 ~ PA11 (T1-4/UsCTS1/CRx1/FS-DM) (io), 71 ~ PA12 (T1-ETR/UsRTS1/CTx1/FS-DP) (io), 72 ~ JTMS-SWDIO (PA13) (io), 73 Vcap2 (power), 74 Vss (power), 75 Vdd (power), 76 ~ JTCK-SWCLK (PA14) (io), 77 ~ PA15 (JTDI/T2-1/T2-ETR/NSS1/NSS3/WS3) (io), 78 ~ PC10 (SCK3/CK3/UsTx3/UTx4/SD-D2/DCMI-D8) (io), 79 ~ PC11 (SDe3/MISO3/UsRx3/URx4/Sd-D3/DCMI-D4) (io), 80 ~ PC12 (MOSI3/SD3/UsCK3/UTx5/SD-CK/DCMI-D9) (io), 81 ~ PD0 (CRx1/FMC-D2) (io), 82 ~ PD1 (CTx1/FMC-D3) (io), 83 ~ PD2 (T3-ETR/URx5/SD-CMD/DCMI-D11) (io), 84 ~ PD3 (SCK2/CK2/UsCTS2/FMC-CK/DCMI-D5) (io), 85 ~ PD4 (URTS2/FMC-NOE) (io), 86 ~ PD5 (UsTx2/FMC-NWE) (io), 87 ~ PD6 (MOSI3/SD3/SD_A1/UsRx2/FMC-NWAIT/DCMI-D10) (io), 88 ~ PD7 (UsCK2/FMC-NE1/FMC-NCE2) (io), 89 ~ PB3 (JTDO/TRACESWO/T2-2/SCK1/SCK3/CK3) (io), 90 ~ PB4 (NJTRST/T3-1/MISO1/MISO3/SDe3) (io), 91 ~ PB5 (T3-2/SMBA1/MOSI1/MOSI3/SD3/CRx2/HS-D7/PPS-OUT/FMC-SDCKE1/DCMI-D10) (io), 92 ~ PB6 (T4-1/SCL1/UsTx1/CTx2/FMC-SDNE1/DCMI-D5) (io), 93 ~ PB7 (T4-2/SDA1/UsRx1/FMC-NL/DCMI-Vsync) (io), 94 BOOT0 (io), 95 ~ PB8 (T4-3/T10-1/SCL1/CRx1/MII-TxD3/SD-D4/DCMI-D6) (io), 96 ~ PB9 (T4-4/T11-1/SDA1/NSS2/WS2/CTx1/SD-D5/DCMI-D7) (io), 97 (T4-ETR/URx8/FMC-NBL0/DCMI-D2) PE0 ~ (io), 98 (UTx8/FMC-NBL1/DCMI-D3) PE1 ~ (io), 99 Vss (power), 100 Vdd (power)

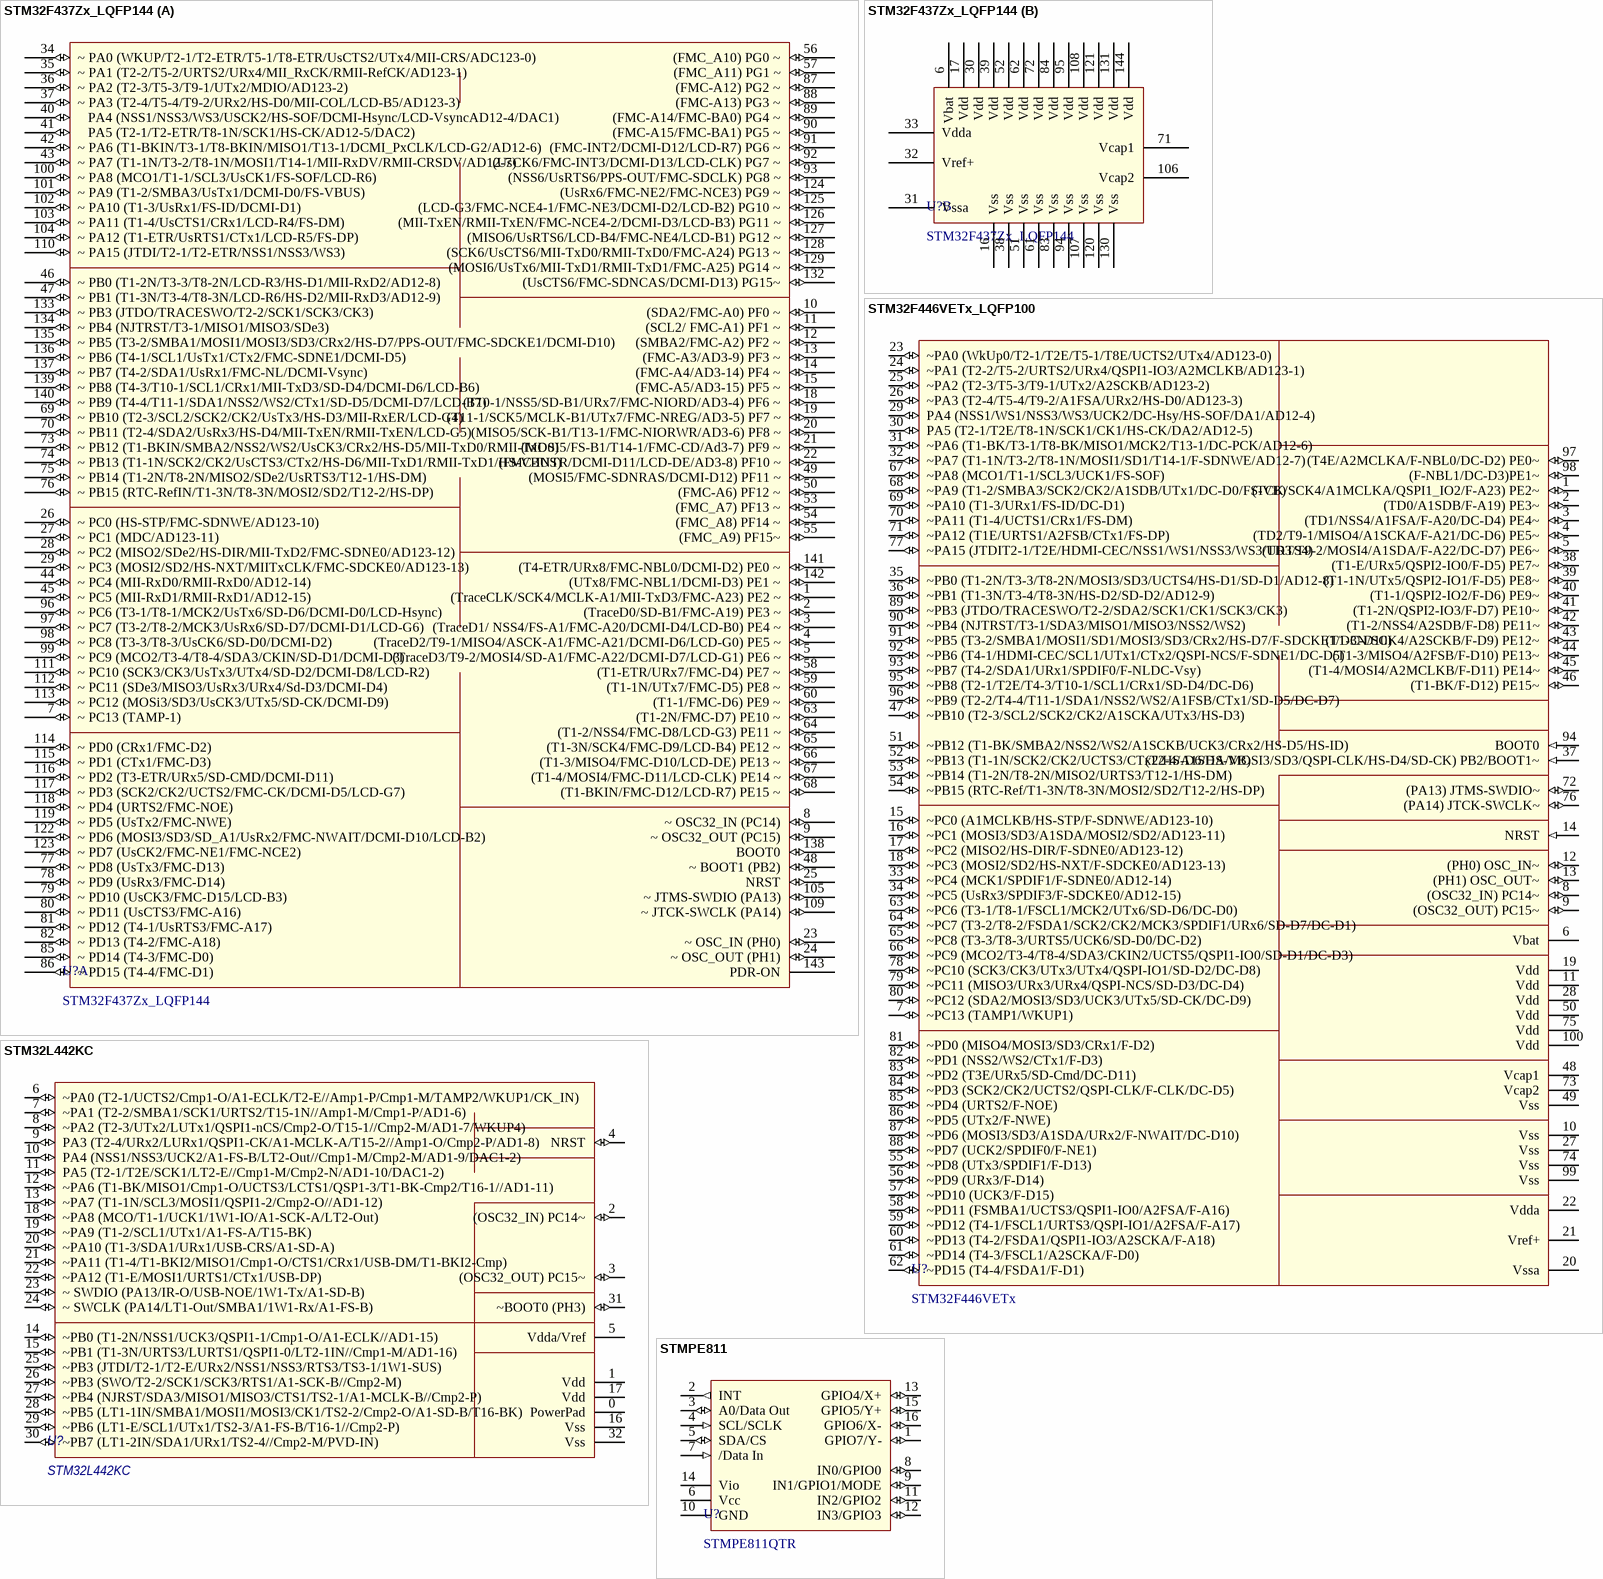
[diagram p37: symbols STM32F437Zx_LQFP144 to STMPE811]

## STM32F437Zx_LQFP144
designator U?
footprint LQFP144_UNICONT
part A pins: 1 (TraceCLK/SCK4/MCLK-A1/MII-TxD3/FMC-A23) PE2 ~ (io), 2 (TraceD0/SD-B1/FMC-A19) PE3 ~ (io), 3 (TraceD1/ NSS4/FS-A1/FMC-A20/DCMI-D4/LCD-B0) PE4 ~ (io), 4 (TraceD2/T9-1/MISO4/ASCK-A1/FMC-A21/DCMI-D6/LCD-G0) PE5 ~ (io), 5 (TraceD3/T9-2/MOSI4/SD-A1/FMC-A22/DCMI-D7/LCD-G1) PE6 ~ (io), 7 ~ PC13 (TAMP-1) (io), 8 ~ OSC32_IN (PC14) (io), 9 ~ OSC32_OUT (PC15) (io), 10 (SDA2/FMC-A0) PF0 ~ (io), 11 (SCL2/ FMC-A1) PF1 ~ (io), 12 (SMBA2/FMC-A2) PF2 ~ (io), 13 (FMC-A3/AD3-9) PF3 ~ (io), 14 (FMC-A4/AD3-14) PF4 ~ (io), 15 (FMC-A5/AD3-15) PF5 ~ (io), 18 (T10-1/NSS5/SD-B1/URx7/FMC-NIORD/AD3-4) PF6 ~ (io), 19 (T11-1/SCK5/MCLK-B1/UTx7/FMC-NREG/AD3-5) PF7 ~ (io), 20 (MISO5/SCK-B1/T13-1/FMC-NIORWR/AD3-6) PF8 ~ (io), 21 (MOSI5/FS-B1/T14-1/FMC-CD/Ad3-7) PF9 ~ (io), 22 (FMC-INTR/DCMI-D11/LCD-DE/AD3-8) PF10 ~ (io), 23 ~ OSC_IN (PH0) (io), 24 ~ OSC_OUT (PH1) (io), 25 NRST (io), 26 ~ PC0 (HS-STP/FMC-SDNWE/AD123-10) (io), 27 ~ PC1 (MDC/AD123-11) (io), 28 ~ PC2 (MISO2/SDe2/HS-DIR/MII-TxD2/FMC-SDNE0/AD123-12) (io), 29 ~ PC3 (MOSI2/SD2/HS-NXT/MIITxCLK/FMC-SDCKE0/AD123-13) (io), 34 ~ PA0 (WKUP/T2-1/T2-ETR/T5-1/T8-ETR/UsCTS2/UTx4/MII-CRS/ADC123-0) (io), 35 ~ PA1 (T2-2/T5-2/URTS2/URx4/MII_RxCK/RMII-RefCK/AD123-1) (io), 36 ~ PA2 (T2-3/T5-3/T9-1/UTx2/MDIO/AD123-2) (io), 37 ~ PA3 (T2-4/T5-4/T9-2/URx2/HS-D0/MII-COL/LCD-B5/AD123-3) (io), 40    PA4 (NSS1/NSS3/WS3/USCK2/HS-SOF/DCMI-Hsync/LCD-VsyncAD12-4/DAC1) (io), 41    PA5 (T2-1/T2-ETR/T8-1N/SCK1/HS-CK/AD12-5/DAC2) (io), 42 ~ PA6 (T1-BKIN/T3-1/T8-BKIN/MISO1/T13-1/DCMI_PxCLK/LCD-G2/AD12-6) (io), 43 ~ PA7 (T1-1N/T3-2/T8-1N/MOSI1/T14-1/MII-RxDV/RMII-CRSDV/AD12-7) (io), 44 ~ PC4 (MII-RxD0/RMII-RxD0/AD12-14) (io), 45 ~ PC5 (MII-RxD1/RMII-RxD1/AD12-15) (io), 46 ~ PB0 (T1-2N/T3-3/T8-2N/LCD-R3/HS-D1/MII-RxD2/AD12-8) (io), 47 ~ PB1 (T1-3N/T3-4/T8-3N/LCD-R6/HS-D2/MII-RxD3/AD12-9) (io), 48 ~ BOOT1 (PB2) (io), 49 (MOSI5/FMC-SDNRAS/DCMI-D12) PF11 ~ (io), 50 (FMC-A6) PF12 ~ (io), 53 (FMC_A7) PF13 ~ (io), 54 (FMC_A8) PF14 ~ (io), 55 (FMC_A9) PF15~ (io), 56 (FMC_A10) PG0 ~ (io), 57 (FMC_A11) PG1 ~ (io), 58  (T1-ETR/URx7/FMC-D4) PE7 ~ (io), 59 (T1-1N/UTx7/FMC-D5) PE8 ~ (io), 60 (T1-1/FMC-D6) PE9 ~ (io), 63 (T1-2N/FMC-D7) PE10 ~ (io), 64  (T1-2/NSS4/FMC-D8/LCD-G3) PE11 ~ (io), 65 (T1-3N/SCK4/FMC-D9/LCD-B4) PE12 ~ (io), 66 (T1-3/MISO4/FMC-D10/LCD-DE) PE13 ~ (io), 67 (T1-4/MOSI4/FMC-D11/LCD-CLK) PE14 ~ (io), 68 (T1-BKIN/FMC-D12/LCD-R7) PE15 ~ (io), 69 ~ PB10 (T2-3/SCL2/SCK2/CK2/UsTx3/HS-D3/MII-RxER/LCD-G4)  (io), 70 ~ PB11 (T2-4/SDA2/UsRx3/HS-D4/MII-TxEN/RMII-TxEN/LCD-G5) (io), 73 ~ PB12 (T1-BKIN/SMBA2/NSS2/WS2/UsCK3/CRx2/HS-D5/MII-TxD0/RMII-TxD0) (io), 74 ~ PB13 (T1-1N/SCK2/CK2/UsCTS3/CTx2/HS-D6/MII-TxD1/RMII-TxD1/HS-VBUS) (io), 75 ~ PB14 (T1-2N/T8-2N/MISO2/SDe2/UsRTS3/T12-1/HS-DM) (io), 76 ~ PB15 (RTC-RefIN/T1-3N/T8-3N/MOSI2/SD2/T12-2/HS-DP) (io), 77 ~ PD8 (UsTx3/FMC-D13) (io), 78 ~ PD9 (UsRx3/FMC-D14) (io), 79 ~ PD10 (UsCK3/FMC-D15/LCD-B3) (io), 80 ~ PD11 (UsCTS3/FMC-A16) (io), 81 ~ PD12 (T4-1/UsRTS3/FMC-A17) (io), 82 ~ PD13 (T4-2/FMC-A18) (io), 85 ~ PD14 (T4-3/FMC-D0) (io), 86 ~ PD15 (T4-4/FMC-D1) (io), 87 (FMC-A12) PG2 ~ (io), 88 (FMC-A13) PG3 ~ (io), 89 (FMC-A14/FMC-BA0) PG4 ~ (io), 90 (FMC-A15/FMC-BA1) PG5 ~ (io), 91 (FMC-INT2/DCMI-D12/LCD-R7) PG6 ~ (io), 92 (UsCK6/FMC-INT3/DCMI-D13/LCD-CLK) PG7 ~ (io), 93 (NSS6/UsRTS6/PPS-OUT/FMC-SDCLK) PG8 ~ (io), 96 ~ PC6 (T3-1/T8-1/MCK2/UsTx6/SD-D6/DCMI-D0/LCD-Hsync) (io), 97 ~ PC7 (T3-2/T8-2/MCK3/UsRx6/SD-D7/DCMI-D1/LCD-G6) (io), 98 ~ PC8 (T3-3/T8-3/UsCK6/SD-D0/DCMI-D2) (io), 99 ~ PC9 (MCO2/T3-4/T8-4/SDA3/CKIN/SD-D1/DCMI-D3) (io), 100 ~ PA8 (MCO1/T1-1/SCL3/UsCK1/FS-SOF/LCD-R6) (io), 101 ~ PA9 (T1-2/SMBA3/UsTx1/DCMI-D0/FS-VBUS) (io), 102 ~ PA10 (T1-3/UsRx1/FS-ID/DCMI-D1) (io), 103 ~ PA11 (T1-4/UsCTS1/CRx1/LCD-R4/FS-DM) (io), 104 ~ PA12 (T1-ETR/UsRTS1/CTx1/LCD-R5/FS-DP) (io), 105 ~ JTMS-SWDIO (PA13) (io), 109 ~ JTCK-SWCLK (PA14) (io), 110 ~ PA15 (JTDI/T2-1/T2-ETR/NSS1/NSS3/WS3) (io), 111 ~ PC10 (SCK3/CK3/UsTx3/UTx4/SD-D2/DCMI-D8/LCD-R2) (io), 112 ~ PC11 (SDe3/MISO3/UsRx3/URx4/Sd-D3/DCMI-D4) (io), 113 ~ PC12 (MOSi3/SD3/UsCK3/UTx5/SD-CK/DCMI-D9) (io), 114 ~ PD0 (CRx1/FMC-D2) (io), 115 ~ PD1 (CTx1/FMC-D3) (io), 116 ~ PD2 (T3-ETR/URx5/SD-CMD/DCMI-D11) (io), 117 ~ PD3 (SCK2/CK2/UCTS2/FMC-CK/DCMI-D5/LCD-G7) (io), 118 ~ PD4 (URTS2/FMC-NOE) (io), 119 ~ PD5 (UsTx2/FMC-NWE) (io), 122 ~ PD6 (MOSI3/SD3/SD_A1/UsRx2/FMC-NWAIT/DCMI-D10/LCD-B2) (io), 123 ~ PD7 (UsCK2/FMC-NE1/FMC-NCE2) (io), 124 (UsRx6/FMC-NE2/FMC-NCE3) PG9 ~ (io), 125 (LCD-G3/FMC-NCE4-1/FMC-NE3/DCMI-D2/LCD-B2) PG10 ~ (io), 126 (MII-TxEN/RMII-TxEN/FMC-NCE4-2/DCMI-D3/LCD-B3) PG11 ~ (io), 127 (MISO6/UsRTS6/LCD-B4/FMC-NE4/LCD-B1) PG12 ~ (io), 128 (SCK6/UsCTS6/MII-TxD0/RMII-TxD0/FMC-A24) PG13 ~ (io), 129 (MOSI6/UsTx6/MII-TxD1/RMII-TxD1/FMC-A25) PG14 ~ (io), 132 (UsCTS6/FMC-SDNCAS/DCMI-D13) PG15~ (io), 133 ~ PB3 (JTDO/TRACESWO/T2-2/SCK1/SCK3/CK3) (io), 134 ~ PB4 (NJTRST/T3-1/MISO1/MISO3/SDe3) (io), 135 ~ PB5 (T3-2/SMBA1/MOSI1/MOSI3/SD3/CRx2/HS-D7/PPS-OUT/FMC-SDCKE1/DCMI-D10) (io), 136 ~ PB6 (T4-1/SCL1/UsTx1/CTx2/FMC-SDNE1/DCMI-D5) (io), 137 ~ PB7 (T4-2/SDA1/UsRx1/FMC-NL/DCMI-Vsync) (io), 138 BOOT0 (io), 139 ~ PB8 (T4-3/T10-1/SCL1/CRx1/MII-TxD3/SD-D4/DCMI-D6/LCD-B6) (io), 140 ~ PB9 (T4-4/T11-1/SDA1/NSS2/WS2/CTx1/SD-D5/DCMI-D7/LCD-B7) (io), 141 (T4-ETR/URx8/FMC-NBL0/DCMI-D2) PE0 ~ (io), 142 (UTx8/FMC-NBL1/DCMI-D3) PE1 ~ (io), 143 PDR-ON (power)
part B pins: 6 Vbat (power), 16 Vss (power), 17 Vdd (power), 30 Vdd (power), 31 Vssa (power), 32 Vref+ (power), 33 Vdda (power), 38 Vss (power), 39 Vdd (power), 51 Vss (power), 52 Vdd (power), 61 Vss (power), 62 Vdd (power), 71 Vcap1 (power), 72 Vdd (power), 83 Vss (power), 84 Vdd (power), 94 Vss (power), 95 Vdd (power), 106 Vcap2 (power), 107 Vss (power), 108 Vdd (power), 120 Vss (power), 121 Vdd (power), 130 Vss (power), 131 Vdd (power), 144 Vdd (power)